# EAGLE library part XC3S5000-FG900 (library xess)
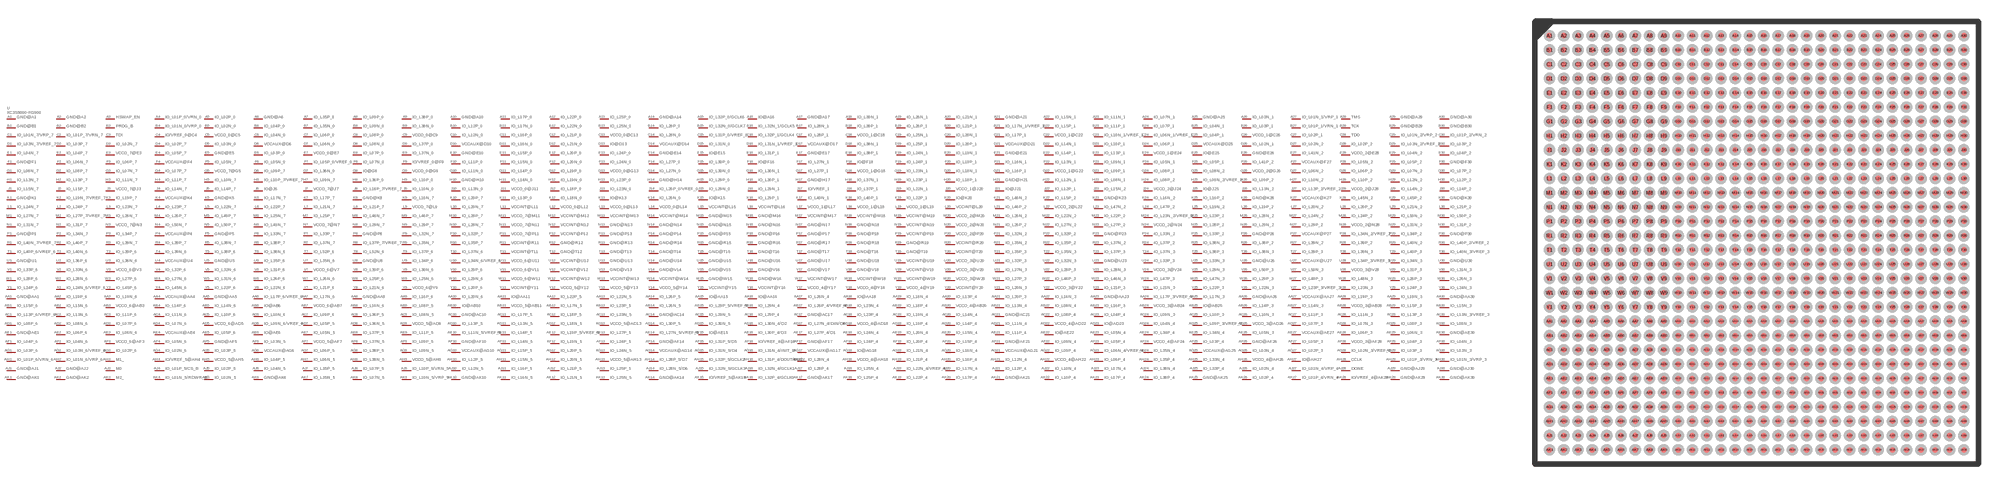
[diagram p101: symbol with the pads of XC3S5000-FG900; footprint XC3S5000-FG900]

Designator prefix U; gates PART_VALUE=PART_VALUE-XC3S5000-FG900 GND@A1=P-XC3S5000-FG900 GND@A2=P-XC3S5000-FG900 HSWAP_EN=P-XC3S5000-FG900 IO_L01P_0/VRN_0=P-XC3S5000-FG900 IO_L02P_0=P-XC3S5000-FG900 GND@A6=P-XC3S5000-FG900 IO_L35P_0=P-XC3S5000-FG900 IO_L09P_0=P-XC3S5000-FG900 IO_L38P_0=P-XC3S5000-FG900 GND@A10=P-XC3S5000-FG900 IO_L17P_0=P-XC3S5000-FG900 IO_L22P_0=P-XC3S5000-FG900 IO_L25P_0=P-XC3S5000-FG900 GND@A14=P-XC3S5000-FG900 IO_L32P_0/GCLK6=P-XC3S5000-FG900 IO@A16=P-XC3S5000-FG900 GND@A17=P-XC3S5000-FG900 IO_L39N_1=P-XC3S5000-FG900 IO_L26N_1=P-XC3S5000-FG900 IO_L21N_1=P-XC3S5000-FG900 GND@A21=P-XC3S5000-FG900 IO_L15N_1=P-XC3S5000-FG900 IO_L11N_1=P-XC3S5000-FG900 IO_L07N_1=P-XC3S5000-FG900 GND@A25=P-XC3S5000-FG900 IO_L03N_1=P-XC3S5000-FG900 IO_L01N_1/VRP_1=P-XC3S5000-FG900 TMS=P-XC3S5000-FG900 GND@A29=P-XC3S5000-FG900 GND@A30=P-XC3S5000-FG900 GND@B1=P-XC3S5000-FG900 GND@B2=P-XC3S5000-FG900 PROG_B=P-XC3S5000-FG900 IO_L01N_0/VRP_0=P-XC3S5000-FG900 IO_L02N_0=P-XC3S5000-FG900 IO_L04P_0=P-XC3S5000-FG900 IO_L35N_0=P-XC3S5000-FG900 IO_L09N_0=P-XC3S5000-FG900 IO_L38N_0=P-XC3S5000-FG900 IO_L12P_0=P-XC3S5000-FG900 IO_L17N_0=P-XC3S5000-FG900 IO_L22N_0=P-XC3S5000-FG900 IO_L25N_0=P-XC3S5000-FG900 IO_L28P_0=P-XC3S5000-FG900 IO_L32N_0/GCLK7=P-XC3S5000-FG900 IO_L32N_1/GCLK5=P-XC3S5000-FG900 IO_L28N_1=P-XC3S5000-FG900 IO_L39P_1=P-XC3S5000-FG900 IO_L26P_1=P-XC3S5000-FG900 IO_L21P_1=P-XC3S5000-FG900 IO_L17N_1/VREF_1=P-XC3S5000-FG900 IO_L15P_1=P-XC3S5000-FG900 IO_L11P_1=P-XC3S5000-FG900 IO_L07P_1=P-XC3S5000-FG900 IO_L04N_1=P-XC3S5000-FG900 IO_L03P_1=P-XC3S5000-FG900 IO_L01P_1/VRN_1=P-XC3S5000-FG900 TCK=P-XC3S5000-FG900 GND@B29=P-XC3S5000-FG900 GND@B30=P-XC3S5000-FG900 IO_L01N_7/VRP_7=P-XC3S5000-FG900 IO_L01P_7/VRN_7=P-XC3S5000-FG900 TDI=P-XC3S5000-FG900 IO/VREF_0@C4=P-XC3S5000-FG900 VCCO_0@C5=P-XC3S5000-FG900 IO_L04N_0=P-XC3S5000-FG900 IO_L06P_0=P-XC3S5000-FG900 IO_L08P_0=P-XC3S5000-FG900 VCCO_0@C9=P-XC3S5000-FG900 IO_L12N_0=P-XC3S5000-FG900 IO_L16P_0=P-XC3S5000-FG900 IO_L21P_0=P-XC3S5000-FG900 VCCO_0@C13=P-XC3S5000-FG900 IO_L28N_0=P-XC3S5000-FG900 IO_L31P_0/VREF_0=P-XC3S5000-FG900 IO_L32P_1/GCLK4=P-XC3S5000-FG900 IO_L28P_1=P-XC3S5000-FG900 VCCO_1@C18=P-XC3S5000-FG900 IO_L25N_1=P-XC3S5000-FG900 IO_L20N_1=P-XC3S5000-FG900 IO_L17P_1=P-XC3S5000-FG900 VCCO_1@C22=P-XC3S5000-FG900 IO_L10N_1/VREF_1=P-XC3S5000-FG900 IO_L06N_1/VREF_1=P-XC3S5000-FG900 IO_L04P_1=P-XC3S5000-FG900 VCCO_1@C26=P-XC3S5000-FG900 IO_L02P_1=P-XC3S5000-FG900 TDO=P-XC3S5000-FG900 IO_L01N_2/VRP_2=P-XC3S5000-FG900 IO_L01P_2/VRN_2=P-XC3S5000-FG900 IO_L03N_7/VREF_7=P-XC3S5000-FG900 IO_L03P_7=P-XC3S5000-FG900 IO_L02N_7=P-XC3S5000-FG900 IO_L02P_7=P-XC3S5000-FG900 IO_L03N_0=P-XC3S5000-FG900 VCCAUX@D6=P-XC3S5000-FG900 IO_L06N_0=P-XC3S5000-FG900 IO_L08N_0=P-XC3S5000-FG900 IO_L37P_0=P-XC3S5000-FG900 VCCAUX@D10=P-XC3S5000-FG900 IO_L16N_0=P-XC3S5000-FG900 IO_L21N_0=P-XC3S5000-FG900 IO@D13=P-XC3S5000-FG900 VCCAUX@D14=P-XC3S5000-FG900 IO_L31N_0=P-XC3S5000-FG900 IO_L31N_1/VREF_1=P-XC3S5000-FG900 VCCAUX@D17=P-XC3S5000-FG900 IO_L38N_1=P-XC3S5000-FG900 IO_L25P_1=P-XC3S5000-FG900 IO_L20P_1=P-XC3S5000-FG900 VCCAUX@D21=P-XC3S5000-FG900 IO_L14N_1=P-XC3S5000-FG900 IO_L10P_1=P-XC3S5000-FG900 IO_L06P_1=P-XC3S5000-FG900 VCCAUX@D25=P-XC3S5000-FG900 IO_L02N_1=P-XC3S5000-FG900 IO_L02N_2=P-XC3S5000-FG900 IO_L02P_2=P-XC3S5000-FG900 IO_L03N_2/VREF_2=P-XC3S5000-FG900 IO_L03P_2=P-XC3S5000-FG900 IO_L04N_7=P-XC3S5000-FG900 IO_L04P_7=P-XC3S5000-FG900 VCCO_7@E3=P-XC3S5000-FG900 IO_L05P_7=P-XC3S5000-FG900 GND@E5=P-XC3S5000-FG900 IO_L03P_0=P-XC3S5000-FG900 VCCO_0@E7=P-XC3S5000-FG900 IO_L07P_0=P-XC3S5000-FG900 IO_L37N_0=P-XC3S5000-FG900 GND@E10=P-XC3S5000-FG900 IO_L15P_0=P-XC3S5000-FG900 IO_L20P_0=P-XC3S5000-FG900 IO_L24P_0=P-XC3S5000-FG900 GND@E14=P-XC3S5000-FG900 IO@E15=P-XC3S5000-FG900 IO_L31P_1=P-XC3S5000-FG900 GND@E17=P-XC3S5000-FG900 IO_L38P_1=P-XC3S5000-FG900 IO_L24N_1=P-XC3S5000-FG900 IO_L19N_1=P-XC3S5000-FG900 GND@E21=P-XC3S5000-FG900 IO_L14P_1=P-XC3S5000-FG900 IO_L13P_1=P-XC3S5000-FG900 VCCO_1@E24=P-XC3S5000-FG900 IO@E25=P-XC3S5000-FG900 GND@E26=P-XC3S5000-FG900 IO_L41N_2=P-XC3S5000-FG900 VCCO_2@E28=P-XC3S5000-FG900 IO_L04N_2=P-XC3S5000-FG900 IO_L04P_2=P-XC3S5000-FG900 GND@F1=P-XC3S5000-FG900 IO_L06N_7=P-XC3S5000-FG900 IO_L06P_7=P-XC3S5000-FG900 VCCAUX@F4=P-XC3S5000-FG900 IO_L05N_7=P-XC3S5000-FG900 IO_L05N_0=P-XC3S5000-FG900 IO_L05P_0/VREF_0=P-XC3S5000-FG900 IO_L07N_0=P-XC3S5000-FG900 IO/VREF_0@F9=P-XC3S5000-FG900 IO_L11P_0=P-XC3S5000-FG900 IO_L15N_0=P-XC3S5000-FG900 IO_L20N_0=P-XC3S5000-FG900 IO_L24N_0=P-XC3S5000-FG900 IO_L27P_0=P-XC3S5000-FG900 IO_L30P_0=P-XC3S5000-FG900 IO@F16=P-XC3S5000-FG900 IO_L27N_1=P-XC3S5000-FG900 IO@F18=P-XC3S5000-FG900 IO_L24P_1=P-XC3S5000-FG900 IO_L19P_1=P-XC3S5000-FG900 IO_L16N_1=P-XC3S5000-FG900 IO_L13N_1=P-XC3S5000-FG900 IO_L09N_1=P-XC3S5000-FG900 IO_L05N_1=P-XC3S5000-FG900 IO_L05P_1=P-XC3S5000-FG900 IO_L41P_2=P-XC3S5000-FG900 VCCAUX@F27=P-XC3S5000-FG900 IO_L05N_2=P-XC3S5000-FG900 IO_L05P_2=P-XC3S5000-FG900 GND@F30=P-XC3S5000-FG900 IO_L08N_7=P-XC3S5000-FG900 IO_L08P_7=P-XC3S5000-FG900 IO_L07N_7=P-XC3S5000-FG900 IO_L07P_7=P-XC3S5000-FG900 VCCO_7@G5=P-XC3S5000-FG900 IO_L09P_7=P-XC3S5000-FG900 IO_L36N_0=P-XC3S5000-FG900 IO@G8=P-XC3S5000-FG900 VCCO_0@G9=P-XC3S5000-FG900 IO_L11N_0=P-XC3S5000-FG900 IO_L14P_0=P-XC3S5000-FG900 IO_L19P_0=P-XC3S5000-FG900 VCCO_0@G13=P-XC3S5000-FG900 IO_L27N_0=P-XC3S5000-FG900 IO_L30N_0=P-XC3S5000-FG900 IO_L30N_1=P-XC3S5000-FG900 IO_L27P_1=P-XC3S5000-FG900 VCCO_1@G18=P-XC3S5000-FG900 IO_L23N_1=P-XC3S5000-FG900 IO_L18N_1=P-XC3S5000-FG900 IO_L16P_1=P-XC3S5000-FG900 VCCO_1@G22=P-XC3S5000-FG900 IO_L09P_1=P-XC3S5000-FG900 IO_L08P_1=P-XC3S5000-FG900 IO_L08N_2=P-XC3S5000-FG900 VCCO_2@G26=P-XC3S5000-FG900 IO_L06N_2=P-XC3S5000-FG900 IO_L06P_2=P-XC3S5000-FG900 IO_L07N_2=P-XC3S5000-FG900 IO_L07P_2=P-XC3S5000-FG900 IO_L13N_7=P-XC3S5000-FG900 IO_L13P_7=P-XC3S5000-FG900 IO_L11N_7=P-XC3S5000-FG900 IO_L11P_7=P-XC3S5000-FG900 IO_L10N_7=P-XC3S5000-FG900 IO_L10P_7/VREF_7=P-XC3S5000-FG900 IO_L09N_7=P-XC3S5000-FG900 IO_L36P_0=P-XC3S5000-FG900 IO_L10P_0=P-XC3S5000-FG900 GND@H10=P-XC3S5000-FG900 IO_L14N_0=P-XC3S5000-FG900 IO_L19N_0=P-XC3S5000-FG900 IO_L23P_0=P-XC3S5000-FG900 GND@H14=P-XC3S5000-FG900 IO_L29P_0=P-XC3S5000-FG900 IO_L30P_1=P-XC3S5000-FG900 GND@H17=P-XC3S5000-FG900 IO_L37N_1=P-XC3S5000-FG900 IO_L23P_1=P-XC3S5000-FG900 IO_L18P_1=P-XC3S5000-FG900 GND@H21=P-XC3S5000-FG900 IO_L12N_1=P-XC3S5000-FG900 IO_L08N_1=P-XC3S5000-FG900 IO_L08P_2=P-XC3S5000-FG900 IO_L09N_2/VREF_2=P-XC3S5000-FG900 IO_L09P_2=P-XC3S5000-FG900 IO_L10N_2=P-XC3S5000-FG900 IO_L10P_2=P-XC3S5000-FG900 IO_L12N_2=P-XC3S5000-FG900 IO_L12P_2=P-XC3S5000-FG900 IO_L15N_7=P-XC3S5000-FG900 IO_L15P_7=P-XC3S5000-FG900 VCCO_7@J3=P-XC3S5000-FG900 IO_L14N_7=P-XC3S5000-FG900 IO_L14P_7=P-XC3S5000-FG900 IO@J6=P-XC3S5000-FG900 VCCO_7@J7=P-XC3S5000-FG900 IO_L16P_7/VREF_7=P-XC3S5000-FG900 IO_L10N_0=P-XC3S5000-FG900 IO_L13N_0=P-XC3S5000-FG900 VCCO_0@J11=P-XC3S5000-FG900 IO_L18P_0=P-XC3S5000-FG900 IO_L23N_0=P-XC3S5000-FG900 IO_L26P_0/VREF_0=P-XC3S5000-FG900 IO_L29N_0=P-XC3S5000-FG900 IO_L29N_1=P-XC3S5000-FG900 IO/VREF_1=P-XC3S5000-FG900 IO_L37P_1=P-XC3S5000-FG900 IO_L22N_1=P-XC3S5000-FG900 VCCO_1@J20=P-XC3S5000-FG900 IO@J21=P-XC3S5000-FG900 IO_L12P_1=P-XC3S5000-FG900 IO_L15N_2=P-XC3S5000-FG900 VCCO_2@J24=P-XC3S5000-FG900 IO@J25=P-XC3S5000-FG900 IO_L13N_2=P-XC3S5000-FG900 IO_L13P_2/VREF_2=P-XC3S5000-FG900 VCCO_2@J28=P-XC3S5000-FG900 IO_L14N_2=P-XC3S5000-FG900 IO_L14P_2=P-XC3S5000-FG900 GND@K1=P-XC3S5000-FG900 IO_L19N_7/VREF_7=P-XC3S5000-FG900 IO_L19P_7=P-XC3S5000-FG900 VCCAUX@K4=P-XC3S5000-FG900 GND@K5=P-XC3S5000-FG900 IO_L17N_7=P-XC3S5000-FG900 IO_L17P_7=P-XC3S5000-FG900 GND@K8=P-XC3S5000-FG900 IO_L16N_7=P-XC3S5000-FG900 IO_L20P_7=P-XC3S5000-FG900 IO_L13P_0=P-XC3S5000-FG900 IO_L18N_0=P-XC3S5000-FG900 IO@K13=P-XC3S5000-FG900 IO_L26N_0=P-XC3S5000-FG900 IO@K15=P-XC3S5000-FG900 IO_L29P_1=P-XC3S5000-FG900 IO_L40N_1=P-XC3S5000-FG900 IO_L40P_1=P-XC3S5000-FG900 IO_L22P_1=P-XC3S5000-FG900 IO@K20=P-XC3S5000-FG900 IO_L46N_2=P-XC3S5000-FG900 IO_L15P_2=P-XC3S5000-FG900 GND@K23=P-XC3S5000-FG900 IO_L16N_2=P-XC3S5000-FG900 IO_L16P_2=P-XC3S5000-FG900 GND@K26=P-XC3S5000-FG900 VCCAUX@K27=P-XC3S5000-FG900 IO_L45N_2=P-XC3S5000-FG900 IO_L45P_2=P-XC3S5000-FG900 GND@K30=P-XC3S5000-FG900 IO_L24N_7=P-XC3S5000-FG900 IO_L24P_7=P-XC3S5000-FG900 IO_L23N_7=P-XC3S5000-FG900 IO_L23P_7=P-XC3S5000-FG900 IO_L22N_7=P-XC3S5000-FG900 IO_L22P_7=P-XC3S5000-FG900 IO_L21N_7=P-XC3S5000-FG900 IO_L21P_7=P-XC3S5000-FG900 VCCO_7@L9=P-XC3S5000-FG900 IO_L20N_7=P-XC3S5000-FG900 VCCINT@L11=P-XC3S5000-FG900 VCCO_0@L12=P-XC3S5000-FG900 VCCO_0@L13=P-XC3S5000-FG900 VCCO_0@L14=P-XC3S5000-FG900 VCCINT@L15=P-XC3S5000-FG900 VCCINT@L16=P-XC3S5000-FG900 VCCO_1@L17=P-XC3S5000-FG900 VCCO_1@L18=P-XC3S5000-FG900 VCCO_1@L19=P-XC3S5000-FG900 VCCINT@L20=P-XC3S5000-FG900 IO_L46P_2=P-XC3S5000-FG900 VCCO_2@L22=P-XC3S5000-FG900 IO_L47N_2=P-XC3S5000-FG900 IO_L47P_2=P-XC3S5000-FG900 IO_L19N_2=P-XC3S5000-FG900 IO_L19P_2=P-XC3S5000-FG900 IO_L20N_2=P-XC3S5000-FG900 IO_L20P_2=P-XC3S5000-FG900 IO_L21N_2=P-XC3S5000-FG900 IO_L21P_2=P-XC3S5000-FG900 IO_L27N_7=P-XC3S5000-FG900 IO_L27P_7/VREF_7=P-XC3S5000-FG900 IO_L26N_7=P-XC3S5000-FG900 IO_L26P_7=P-XC3S5000-FG900 IO_L49P_7=P-XC3S5000-FG900 IO_L25N_7=P-XC3S5000-FG900 IO_L25P_7=P-XC3S5000-FG900 IO_L46N_7=P-XC3S5000-FG900 IO_L46P_7=P-XC3S5000-FG900 IO_L28P_7=P-XC3S5000-FG900 VCCO_7@M11=P-XC3S5000-FG900 VCCINT@M12=P-XC3S5000-FG900 VCCINT@M13=P-XC3S5000-FG900 VCCINT@M14=P-XC3S5000-FG900 GND@M15=P-XC3S5000-FG900 GND@M16=P-XC3S5000-FG900 VCCINT@M17=P-XC3S5000-FG900 VCCINT@M18=P-XC3S5000-FG900 VCCINT@M19=P-XC3S5000-FG900 VCCO_2@M20=P-XC3S5000-FG900 IO_L26N_2=P-XC3S5000-FG900 IO_L22N_2=P-XC3S5000-FG900 IO_L22P_2=P-XC3S5000-FG900 IO_L23N_2/VREF_2=P-XC3S5000-FG900 IO_L23P_2=P-XC3S5000-FG900 IO_L28N_2=P-XC3S5000-FG900 IO_L24N_2=P-XC3S5000-FG900 IO_L24P_2=P-XC3S5000-FG900 IO_L50N_2=P-XC3S5000-FG900 IO_L50P_2=P-XC3S5000-FG900 IO_L31N_7=P-XC3S5000-FG900 IO_L31P_7=P-XC3S5000-FG900 VCCO_7@N3=P-XC3S5000-FG900 IO_L50N_7=P-XC3S5000-FG900 IO_L50P_7=P-XC3S5000-FG900 IO_L49N_7=P-XC3S5000-FG900 VCCO_7@N7=P-XC3S5000-FG900 IO_L29N_7=P-XC3S5000-FG900 IO_L29P_7=P-XC3S5000-FG900 IO_L28N_7=P-XC3S5000-FG900 VCCO_7@N11=P-XC3S5000-FG900 VCCINT@N12=P-XC3S5000-FG900 GND@N13=P-XC3S5000-FG900 GND@N14=P-XC3S5000-FG900 GND@N15=P-XC3S5000-FG900 GND@N16=P-XC3S5000-FG900 GND@N17=P-XC3S5000-FG900 GND@N18=P-XC3S5000-FG900 VCCINT@N19=P-XC3S5000-FG900 VCCO_2@N20=P-XC3S5000-FG900 IO_L26P_2=P-XC3S5000-FG900 IO_L27N_2=P-XC3S5000-FG900 IO_L27P_2=P-XC3S5000-FG900 VCCO_2@N24=P-XC3S5000-FG900 IO_L28P_2=P-XC3S5000-FG900 IO_L29N_2=P-XC3S5000-FG900 IO_L29P_2=P-XC3S5000-FG900 VCCO_2@N28=P-XC3S5000-FG900 IO_L31N_2=P-XC3S5000-FG900 IO_L31P_2=P-XC3S5000-FG900 GND@P1=P-XC3S5000-FG900 IO_L34N_7=P-XC3S5000-FG900 IO_L34P_7=P-XC3S5000-FG900 VCCAUX@P4=P-XC3S5000-FG900 GND@P5=P-XC3S5000-FG900 IO_L33N_7=P-XC3S5000-FG900 IO_L33P_7=P-XC3S5000-FG900 GND@P8=P-XC3S5000-FG900 IO_L32N_7=P-XC3S5000-FG900 IO_L32P_7=P-XC3S5000-FG900 VCCO_7@P11=P-XC3S5000-FG900 VCCINT@P12=P-XC3S5000-FG900 GND@P13=P-XC3S5000-FG900 GND@P14=P-XC3S5000-FG900 GND@P15=P-XC3S5000-FG900 GND@P16=P-XC3S5000-FG900 GND@P17=P-XC3S5000-FG900 GND@P18=P-XC3S5000-FG900 VCCINT@P19=P-XC3S5000-FG900 VCCO_2@P20=P-XC3S5000-FG900 IO_L32N_2=P-XC3S5000-FG900 IO_L32P_2=P-XC3S5000-FG900 GND@P23=P-XC3S5000-FG900 IO_L33N_2=P-XC3S5000-FG900 IO_L33P_2=P-XC3S5000-FG900 GND@P26=P-XC3S5000-FG900 VCCAUX@P27=P-XC3S5000-FG900 IO_L34N_2/VREF_2=P-XC3S5000-FG900 IO_L34P_2=P-XC3S5000-FG900 GND@P30=P-XC3S5000-FG900 IO_L40N_7/VREF_7=P-XC3S5000-FG900 IO_L40P_7=P-XC3S5000-FG900 IO_L39N_7=P-XC3S5000-FG900 IO_L39P_7=P-XC3S5000-FG900 IO_L38N_7=P-XC3S5000-FG900 IO_L38P_7=P-XC3S5000-FG900 IO_L37N_7=P-XC3S5000-FG900 IO_L37P_7/VREF_7=P-XC3S5000-FG900 IO_L35N_7=P-XC3S5000-FG900 IO_L35P_7=P-XC3S5000-FG900 VCCINT@R11=P-XC3S5000-FG900 GND@R12=P-XC3S5000-FG900 GND@R13=P-XC3S5000-FG900 GND@R14=P-XC3S5000-FG900 GND@R15=P-XC3S5000-FG900 GND@R16=P-XC3S5000-FG900 GND@R17=P-XC3S5000-FG900 GND@R18=P-XC3S5000-FG900 GND@R19=P-XC3S5000-FG900 VCCINT@R20=P-XC3S5000-FG900 IO_L35N_2=P-XC3S5000-FG900 IO_L35P_2=P-XC3S5000-FG900 IO_L37N_2=P-XC3S5000-FG900 IO_L37P_2=P-XC3S5000-FG900 IO_L38N_2=P-XC3S5000-FG900 IO_L38P_2=P-XC3S5000-FG900 IO_L39N_2=P-XC3S5000-FG900 IO_L39P_2=P-XC3S5000-FG900 IO_L40N_2=P-XC3S5000-FG900 IO_L40P_2/VREF_2=P-XC3S5000-FG900 IO_L40P_6/VREF_6=P-XC3S5000-FG900 IO_L40N_6=P-XC3S5000-FG900 IO_L39P_6=P-XC3S5000-FG900 IO_L39N_6=P-XC3S5000-FG900 IO_L38P_6=P-XC3S5000-FG900 IO_L38N_6=P-XC3S5000-FG900 IO_L52P_6=P-XC3S5000-FG900 IO_L52N_6=P-XC3S5000-FG900 IO_L37P_6=P-XC3S5000-FG900 IO_L37N_6=P-XC3S5000-FG900 VCCINT@T11=P-XC3S5000-FG900 GND@T12=P-XC3S5000-FG900 GND@T13=P-XC3S5000-FG900 GND@T14=P-XC3S5000-FG900 GND@T15=P-XC3S5000-FG900 GND@T16=P-XC3S5000-FG900 GND@T17=P-XC3S5000-FG900 GND@T18=P-XC3S5000-FG900 GND@T19=P-XC3S5000-FG900 VCCINT@T20=P-XC3S5000-FG900 IO_L35P_3=P-XC3S5000-FG900 IO_L35N_3=P-XC3S5000-FG900 IO_L37P_3=P-XC3S5000-FG900 IO_L37N_3=P-XC3S5000-FG900 IO_L38P_3=P-XC3S5000-FG900 IO_L38N_3=P-XC3S5000-FG900 IO_L39P_3=P-XC3S5000-FG900 IO_L39N_3=P-XC3S5000-FG900 IO_L40P_3=P-XC3S5000-FG900 IO_L40N_3/VREF_3=P-XC3S5000-FG900 GND@U1=P-XC3S5000-FG900 IO_L36P_6=P-XC3S5000-FG900 IO_L36N_6=P-XC3S5000-FG900 VCCAUX@U4=P-XC3S5000-FG900 GND@U5=P-XC3S5000-FG900 IO_L35P_6=P-XC3S5000-FG900 IO_L35N_6=P-XC3S5000-FG900 GND@U8=P-XC3S5000-FG900 IO_L34P_6=P-XC3S5000-FG900 IO_L34N_6/VREF_6=P-XC3S5000-FG900 VCCO_6@U11=P-XC3S5000-FG900 VCCINT@U12=P-XC3S5000-FG900 GND@U13=P-XC3S5000-FG900 GND@U14=P-XC3S5000-FG900 GND@U15=P-XC3S5000-FG900 GND@U16=P-XC3S5000-FG900 GND@U17=P-XC3S5000-FG900 GND@U18=P-XC3S5000-FG900 VCCINT@U19=P-XC3S5000-FG900 VCCO_3@U20=P-XC3S5000-FG900 IO_L32P_3=P-XC3S5000-FG900 IO_L32N_3=P-XC3S5000-FG900 GND@U23=P-XC3S5000-FG900 IO_L33P_3=P-XC3S5000-FG900 IO_L33N_3=P-XC3S5000-FG900 GND@U26=P-XC3S5000-FG900 VCCAUX@U27=P-XC3S5000-FG900 IO_L34P_3/VREF_3=P-XC3S5000-FG900 IO_L34N_3=P-XC3S5000-FG900 GND@U30=P-XC3S5000-FG900 IO_L33P_6=P-XC3S5000-FG900 IO_L33N_6=P-XC3S5000-FG900 VCCO_6@V3=P-XC3S5000-FG900 IO_L32P_6=P-XC3S5000-FG900 IO_L32N_6=P-XC3S5000-FG900 IO_L31P_6=P-XC3S5000-FG900 VCCO_6@V7=P-XC3S5000-FG900 IO_L30P_6=P-XC3S5000-FG900 IO_L30N_6=P-XC3S5000-FG900 IO_L29P_6=P-XC3S5000-FG900 VCCO_6@V11=P-XC3S5000-FG900 VCCINT@V12=P-XC3S5000-FG900 GND@V13=P-XC3S5000-FG900 GND@V14=P-XC3S5000-FG900 GND@V15=P-XC3S5000-FG900 GND@V16=P-XC3S5000-FG900 GND@V17=P-XC3S5000-FG900 GND@V18=P-XC3S5000-FG900 VCCINT@V19=P-XC3S5000-FG900 VCCO_3@V20=P-XC3S5000-FG900 IO_L27N_3=P-XC3S5000-FG900 IO_L28P_3=P-XC3S5000-FG900 IO_L28N_3=P-XC3S5000-FG900 VCCO_3@V24=P-XC3S5000-FG900 IO_L29N_3=P-XC3S5000-FG900 IO_L50P_3=P-XC3S5000-FG900 IO_L50N_3=P-XC3S5000-FG900 VCCO_3@V28=P-XC3S5000-FG900 IO_L31P_3=P-XC3S5000-FG900 IO_L31N_3=P-XC3S5000-FG900 IO_L28P_6=P-XC3S5000-FG900 IO_L28N_6=P-XC3S5000-FG900 IO_L27P_6=P-XC3S5000-FG900 IO_L27N_6=P-XC3S5000-FG900 IO_L31N_6=P-XC3S5000-FG900 IO_L26P_6=P-XC3S5000-FG900 IO_L26N_6=P-XC3S5000-FG900 IO_L25P_6=P-XC3S5000-FG900 IO_L25N_6=P-XC3S5000-FG900 IO_L29N_6=P-XC3S5000-FG900 VCCO_6@W11=P-XC3S5000-FG900 VCCINT@W12=P-XC3S5000-FG900 VCCINT@W13=P-XC3S5000-FG900 VCCINT@W14=P-XC3S5000-FG900 GND@W15=P-XC3S5000-FG900 GND@W16=P-XC3S5000-FG900 VCCINT@W17=P-XC3S5000-FG900 VCCINT@W18=P-XC3S5000-FG900 VCCINT@W19=P-XC3S5000-FG900 VCCO_3@W20=P-XC3S5000-FG900 IO_L27P_3=P-XC3S5000-FG900 IO_L46P_3=P-XC3S5000-FG900 IO_L46N_3=P-XC3S5000-FG900 IO_L47P_3=P-XC3S5000-FG900 IO_L47N_3=P-XC3S5000-FG900 IO_L29P_3=P-XC3S5000-FG900 IO_L48P_3=P-XC3S5000-FG900 IO_L48N_3=P-XC3S5000-FG900 IO_L26P_3=P-XC3S5000-FG900 IO_L26N_3=P-XC3S5000-FG900 IO_L24P_6=P-XC3S5000-FG900 IO_L24N_6/VREF_6=P-XC3S5000-FG900 IO_L45P_6=P-XC3S5000-FG900 IO_L45N_6=P-XC3S5000-FG900 IO_L22P_6=P-XC3S5000-FG900 IO_L22N_6=P-XC3S5000-FG900 IO_L21P_6=P-XC3S5000-FG900 IO_L21N_6=P-XC3S5000-FG900 VCCO_6@Y9=P-XC3S5000-FG900 IO_L20P_6=P-XC3S5000-FG900 VCCINT@Y11=P-XC3S5000-FG900 VCCO_5@Y12=P-XC3S5000-FG900 VCCO_5@Y13=P-XC3S5000-FG900 VCCO_5@Y14=P-XC3S5000-FG900 VCCINT@Y15=P-XC3S5000-FG900 VCCINT@Y16=P-XC3S5000-FG900 VCCO_4@Y17=P-XC3S5000-FG900 VCCO_4@Y18=P-XC3S5000-FG900 VCCO_4@Y19=P-XC3S5000-FG900 VCCINT@Y20=P-XC3S5000-FG900 IO_L20N_3=P-XC3S5000-FG900 VCCO_3@Y22=P-XC3S5000-FG900 IO_L21P_3=P-XC3S5000-FG900 IO_L21N_3=P-XC3S5000-FG900 IO_L22P_3=P-XC3S5000-FG900 IO_L22N_3=P-XC3S5000-FG900 IO_L23P_3/VREF_3=P-XC3S5000-FG900 IO_L23N_3=P-XC3S5000-FG900 IO_L24P_3=P-XC3S5000-FG900 IO_L24N_3=P-XC3S5000-FG900 GND@AA1=P-XC3S5000-FG900 IO_L19P_6=P-XC3S5000-FG900 IO_L19N_6=P-XC3S5000-FG900 VCCAUX@AA4=P-XC3S5000-FG900 GND@AA5=P-XC3S5000-FG900 IO_L17P_6/VREF_6=P-XC3S5000-FG900 IO_L17N_6=P-XC3S5000-FG900 GND@AA8=P-XC3S5000-FG900 IO_L16P_6=P-XC3S5000-FG900 IO_L20N_6=P-XC3S5000-FG900 IO@AA11=P-XC3S5000-FG900 IO_L22P_5=P-XC3S5000-FG900 IO_L22N_5=P-XC3S5000-FG900 IO_L26P_5=P-XC3S5000-FG900 IO@AA15=P-XC3S5000-FG900 IO@AA16=P-XC3S5000-FG900 IO_L26N_4=P-XC3S5000-FG900 IO@AA18=P-XC3S5000-FG900 IO_L18N_4=P-XC3S5000-FG900 IO_L13P_4=P-XC3S5000-FG900 IO_L20P_3=P-XC3S5000-FG900 IO_L16N_3=P-XC3S5000-FG900 GND@AA23=P-XC3S5000-FG900 IO_L17P_3/VREF_3=P-XC3S5000-FG900 IO_L17N_3=P-XC3S5000-FG900 GND@AA26=P-XC3S5000-FG900 VCCAUX@AA27=P-XC3S5000-FG900 IO_L19P_3=P-XC3S5000-FG900 IO_L19N_3=P-XC3S5000-FG900 GND@AA30=P-XC3S5000-FG900 IO_L15P_6=P-XC3S5000-FG900 IO_L15N_6=P-XC3S5000-FG900 VCCO_6@AB3=P-XC3S5000-FG900 IO_L14P_6=P-XC3S5000-FG900 IO_L14N_6=P-XC3S5000-FG900 IO@AB6=P-XC3S5000-FG900 VCCO_6@AB7=P-XC3S5000-FG900 IO_L16N_6=P-XC3S5000-FG900 IO_L08P_5=P-XC3S5000-FG900 IO@AB10=P-XC3S5000-FG900 VCCO_5@AB11=P-XC3S5000-FG900 IO_L17N_5=P-XC3S5000-FG900 IO_L23P_5=P-XC3S5000-FG900 IO_L26N_5=P-XC3S5000-FG900 IO_L29P_5/VREF_5=P-XC3S5000-FG900 IO_L29N_4=P-XC3S5000-FG900 IO_L26P_4/VREF_4=P-XC3S5000-FG900 IO_L23N_4=P-XC3S5000-FG900 IO_L18P_4=P-XC3S5000-FG900 VCCO_4@AB20=P-XC3S5000-FG900 IO_L13N_4=P-XC3S5000-FG900 IO_L08N_4=P-XC3S5000-FG900 IO_L16P_3=P-XC3S5000-FG900 VCCO_3@AB24=P-XC3S5000-FG900 IO@AB25=P-XC3S5000-FG900 IO_L14P_3=P-XC3S5000-FG900 IO_L14N_3=P-XC3S5000-FG900 VCCO_3@AB28=P-XC3S5000-FG900 IO_L15P_3=P-XC3S5000-FG900 IO_L15N_3=P-XC3S5000-FG900 IO_L13P_6/VREF_6=P-XC3S5000-FG900 IO_L13N_6=P-XC3S5000-FG900 IO_L11P_6=P-XC3S5000-FG900 IO_L11N_6=P-XC3S5000-FG900 IO_L10P_6=P-XC3S5000-FG900 IO_L10N_6=P-XC3S5000-FG900 IO_L09P_6=P-XC3S5000-FG900 IO_L36P_5=P-XC3S5000-FG900 IO_L08N_5=P-XC3S5000-FG900 GND@AC10=P-XC3S5000-FG900 IO_L17P_5=P-XC3S5000-FG900 IO_L18P_5=P-XC3S5000-FG900 IO_L23N_5=P-XC3S5000-FG900 GND@AC14=P-XC3S5000-FG900 IO_L29N_5=P-XC3S5000-FG900 IO_L29P_4=P-XC3S5000-FG900 GND@AC17=P-XC3S5000-FG900 IO_L23P_4=P-XC3S5000-FG900 IO_L19N_4=P-XC3S5000-FG900 IO_L14N_4=P-XC3S5000-FG900 GND@AC21=P-XC3S5000-FG900 IO_L08P_4=P-XC3S5000-FG900 IO_L04P_4=P-XC3S5000-FG900 IO_L09N_3=P-XC3S5000-FG900 IO_L10P_3=P-XC3S5000-FG900 IO_L10N_3=P-XC3S5000-FG900 IO_L11P_3=P-XC3S5000-FG900 IO_L11N_3=P-XC3S5000-FG900 IO_L13P_3=P-XC3S5000-FG900 IO_L13N_3/VREF_3=P-XC3S5000-FG900 IO_L08P_6=P-XC3S5000-FG900 IO_L08N_6=P-XC3S5000-FG900 IO_L07P_6=P-XC3S5000-FG900 IO_L07N_6=P-XC3S5000-FG900 VCCO_6@AD5=P-XC3S5000-FG900 IO_L09N_6/VREF_6=P-XC3S5000-FG900 IO_L05P_5=P-XC3S5000-FG900 IO_L36N_5=P-XC3S5000-FG900 VCCO_5@AD9=P-XC3S5000-FG900 IO_L13P_5=P-XC3S5000-FG900 IO_L13N_5=P-XC3S5000-FG900 IO_L18N_5=P-XC3S5000-FG900 VCCO_5@AD13=P-XC3S5000-FG900 IO_L30P_5=P-XC3S5000-FG900 IO_L30N_5=P-XC3S5000-FG900 IO_L30N_4/D2=P-XC3S5000-FG900 IO_L27N_4/DIN/D0=P-XC3S5000-FG900 VCCO_4@AD18=P-XC3S5000-FG900 IO_L19P_4=P-XC3S5000-FG900 IO_L14P_4=P-XC3S5000-FG900 IO_L11N_4=P-XC3S5000-FG900 VCCO_4@AD22=P-XC3S5000-FG900 IO@AD23=P-XC3S5000-FG900 IO_L04N_4=P-XC3S5000-FG900 IO_L09P_3/VREF_3=P-XC3S5000-FG900 VCCO_3@AD26=P-XC3S5000-FG900 IO_L07P_3=P-XC3S5000-FG900 IO_L07N_3=P-XC3S5000-FG900 IO_L08P_3=P-XC3S5000-FG900 IO_L08N_3=P-XC3S5000-FG900 GND@AE1=P-XC3S5000-FG900 IO_L06P_6=P-XC3S5000-FG900 IO_L06N_6=P-XC3S5000-FG900 VCCAUX@AE4=P-XC3S5000-FG900 IO_L05P_6=P-XC3S5000-FG900 IO@AE6=P-XC3S5000-FG900 IO_L05N_5=P-XC3S5000-FG900 IO_L37P_5=P-XC3S5000-FG900 IO_L11P_5=P-XC3S5000-FG900 IO_L11N_5/VREF_5=P-XC3S5000-FG900 IO_L14P_5=P-XC3S5000-FG900 IO_L19P_5/VREF_5=P-XC3S5000-FG900 IO_L27P_5=P-XC3S5000-FG900 IO_L27N_5/VREF_5=P-XC3S5000-FG900 IO@AE15=P-XC3S5000-FG900 IO_L30P_4/D3=P-XC3S5000-FG900 IO_L27P_4/D1=P-XC3S5000-FG900 IO_L24N_4=P-XC3S5000-FG900 IO_L20N_4=P-XC3S5000-FG900 IO_L15N_4=P-XC3S5000-FG900 IO_L11P_4=P-XC3S5000-FG900 IO@AE22=P-XC3S5000-FG900 IO_L05N_4=P-XC3S5000-FG900 IO_L34P_4=P-XC3S5000-FG900 IO_L34N_4=P-XC3S5000-FG900 IO_L05N_3=P-XC3S5000-FG900 VCCAUX@AE27=P-XC3S5000-FG900 IO_L06P_3=P-XC3S5000-FG900 IO_L06N_3=P-XC3S5000-FG900 GND@AE30=P-XC3S5000-FG900 IO_L04P_6=P-XC3S5000-FG900 IO_L04N_6=P-XC3S5000-FG900 VCCO_6@AF3=P-XC3S5000-FG900 IO_L05N_6=P-XC3S5000-FG900 GND@AF5=P-XC3S5000-FG900 IO_L03N_5=P-XC3S5000-FG900 VCCO_5@AF7=P-XC3S5000-FG900 IO_L37N_5=P-XC3S5000-FG900 IO_L09P_5=P-XC3S5000-FG900 GND@AF10=P-XC3S5000-FG900 IO_L14N_5=P-XC3S5000-FG900 IO_L19N_5=P-XC3S5000-FG900 IO_L24P_5=P-XC3S5000-FG900 GND@AF14=P-XC3S5000-FG900 IO_L31P_5/D5=P-XC3S5000-FG900 IO/VREF_4@AF16=P-XC3S5000-FG900 GND@AF17=P-XC3S5000-FG900 IO_L24P_4=P-XC3S5000-FG900 IO_L20P_4=P-XC3S5000-FG900 IO_L15P_4=P-XC3S5000-FG900 GND@AF21=P-XC3S5000-FG900 IO_L09N_4=P-XC3S5000-FG900 IO_L05P_4=P-XC3S5000-FG900 VCCO_4@AF24=P-XC3S5000-FG900 IO_L03P_4=P-XC3S5000-FG900 GND@AF26=P-XC3S5000-FG900 IO_L05P_3=P-XC3S5000-FG900 VCCO_3@AF28=P-XC3S5000-FG900 IO_L04P_3=P-XC3S5000-FG900 IO_L04N_3=P-XC3S5000-FG900 IO_L03P_6=P-XC3S5000-FG900 IO_L03N_6/VREF_6=P-XC3S5000-FG900 IO_L02P_6=P-XC3S5000-FG900 IO_L02N_6=P-XC3S5000-FG900 IO_L03P_5=P-XC3S5000-FG900 VCCAUX@AG6=P-XC3S5000-FG900 IO_L06P_5=P-XC3S5000-FG900 IO_L38P_5=P-XC3S5000-FG900 IO_L09N_5=P-XC3S5000-FG900 VCCAUX@AG10=P-XC3S5000-FG900 IO_L15P_5=P-XC3S5000-FG900 IO_L20P_5=P-XC3S5000-FG900 IO_L24N_5=P-XC3S5000-FG900 VCCAUX@AG14=P-XC3S5000-FG900 IO_L31N_5/D4=P-XC3S5000-FG900 IO_L31N_4/INIT_B=P-XC3S5000-FG900 VCCAUX@AG17=P-XC3S5000-FG900 IO@AG18=P-XC3S5000-FG900 IO_L21N_4=P-XC3S5000-FG900 IO_L16N_4=P-XC3S5000-FG900 VCCAUX@AG21=P-XC3S5000-FG900 IO_L09P_4=P-XC3S5000-FG900 IO_L06N_4/VREF_4=P-XC3S5000-FG900 IO_L35N_4=P-XC3S5000-FG900 VCCAUX@AG25=P-XC3S5000-FG900 IO_L03N_4=P-XC3S5000-FG900 IO_L02P_3=P-XC3S5000-FG900 IO_L02N_3/VREF_3=P-XC3S5000-FG900 IO_L03P_3=P-XC3S5000-FG900 IO_L03N_3=P-XC3S5000-FG900 IO_L01P_6/VRN_6=P-XC3S5000-FG900 IO_L01N_6/VRP_6=P-XC3S5000-FG900 M1_=P-XC3S5000-FG900 IO/VREF_5@AH4=P-XC3S5000-FG900 VCCO_5@AH5=P-XC3S5000-FG900 IO_L04P_5=P-XC3S5000-FG900 IO_L06N_5=P-XC3S5000-FG900 IO_L38N_5=P-XC3S5000-FG900 VCCO_5@AH9=P-XC3S5000-FG900 IO_L12P_5=P-XC3S5000-FG900 IO_L15N_5=P-XC3S5000-FG900 IO_L20N_5=P-XC3S5000-FG900 VCCO_5@AH13=P-XC3S5000-FG900 IO_L28P_5/D7=P-XC3S5000-FG900 IO_L32P_5/GCLK2=P-XC3S5000-FG900 IO_L31P_4/DOUT/BUSY=P-XC3S5000-FG900 IO_L28N_4=P-XC3S5000-FG900 VCCO_4@AH18=P-XC3S5000-FG900 IO_L21P_4=P-XC3S5000-FG900 IO_L16P_4=P-XC3S5000-FG900 IO_L12N_4=P-XC3S5000-FG900 VCCO_4@AH22=P-XC3S5000-FG900 IO_L06P_4=P-XC3S5000-FG900 IO_L35P_4=P-XC3S5000-FG900 IO_L33N_4=P-XC3S5000-FG900 VCCO_4@AH26=P-XC3S5000-FG900 IO@AH27=P-XC3S5000-FG900 CCLK=P-XC3S5000-FG900 IO_L01P_3/VRN_3=P-XC3S5000-FG900 IO_L01N_3/VRP_3=P-XC3S5000-FG900 GND@AJ1=P-XC3S5000-FG900 GND@AJ2=P-XC3S5000-FG900 M0=P-XC3S5000-FG900 IO_L01P_5/CS_B=P-XC3S5000-FG900 IO_L02P_5=P-XC3S5000-FG900 IO_L04N_5=P-XC3S5000-FG900 IO_L35P_5=P-XC3S5000-FG900 IO_L07P_5=P-XC3S5000-FG900 IO_L10P_5/VRN_5=P-XC3S5000-FG900 IO_L12N_5=P-XC3S5000-FG900 IO_L16P_5=P-XC3S5000-FG900 IO_L21P_5=P-XC3S5000-FG900 IO_L25P_5=P-XC3S5000-FG900 IO_L28N_5/D6=P-XC3S5000-FG900 IO_L32N_5/GCLK3=P-XC3S5000-FG900 IO_L32N_4/GCLK1=P-XC3S5000-FG900 IO_L28P_4=P-XC3S5000-FG900 IO_L25N_4=P-XC3S5000-FG900 IO_L22N_4/VREF_4=P-XC3S5000-FG900 IO_L17N_4=P-XC3S5000-FG900 IO_L12P_4=P-XC3S5000-FG900 IO_L10N_4=P-XC3S5000-FG900 IO_L07N_4=P-XC3S5000-FG900 IO_L38N_4=P-XC3S5000-FG900 IO_L33P_4=P-XC3S5000-FG900 IO_L02N_4=P-XC3S5000-FG900 IO_L01N_4/VRP_4=P-XC3S5000-FG900 DONE=P-XC3S5000-FG900 GND@AJ29=P-XC3S5000-FG900 GND@AJ30=P-XC3S5000-FG900 GND@AK1=P-XC3S5000-FG900 GND@AK2=P-XC3S5000-FG900 M2_=P-XC3S5000-FG900 IO_L01N_5/RDWR_B=P-XC3S5000-FG900 IO_L02N_5=P-XC3S5000-FG900 GND@AK6=P-XC3S5000-FG900 IO_L35N_5=P-XC3S5000-FG900 IO_L07N_5=P-XC3S5000-FG900 IO_L10N_5/VRP_5=P-XC3S5000-FG900 GND@AK10=P-XC3S5000-FG900 IO_L16N_5=P-XC3S5000-FG900 IO_L21N_5=P-XC3S5000-FG900 IO_L25N_5=P-XC3S5000-FG900 GND@AK14=P-XC3S5000-FG900 IO/VREF_5@AK15=P-XC3S5000-FG900 IO_L32P_4/GCLK0=P-XC3S5000-FG900 GND@AK17=P-XC3S5000-FG900 IO_L25P_4=P-XC3S5000-FG900 IO_L22P_4=P-XC3S5000-FG900 IO_L17P_4=P-XC3S5000-FG900 GND@AK21=P-XC3S5000-FG900 IO_L10P_4=P-XC3S5000-FG900 IO_L07P_4=P-XC3S5000-FG900 IO_L38P_4=P-XC3S5000-FG900 GND@AK25=P-XC3S5000-FG900 IO_L02P_4=P-XC3S5000-FG900 IO_L01P_4/VRN_4=P-XC3S5000-FG900 IO/VREF_4@AK28=P-XC3S5000-FG900 GND@AK29=P-XC3S5000-FG900 GND@AK30=P-XC3S5000-FG900

## XC3S5000-FG900  [XC3S5000-FG900]
A1  GND@A1:P$1
A2  GND@A2:P$1
A3  HSWAP_EN:P$1
A4  IO_L01P_0/VRN_0:P$1
A5  IO_L02P_0:P$1
A6  GND@A6:P$1
A7  IO_L35P_0:P$1
A8  IO_L09P_0:P$1
A9  IO_L38P_0:P$1
A10  GND@A10:P$1
A11  IO_L17P_0:P$1
A12  IO_L22P_0:P$1
A13  IO_L25P_0:P$1
A14  GND@A14:P$1
A15  IO_L32P_0/GCLK6:P$1
A16  IO@A16:P$1
A17  GND@A17:P$1
A18  IO_L39N_1:P$1
A19  IO_L26N_1:P$1
A20  IO_L21N_1:P$1
A21  GND@A21:P$1
A22  IO_L15N_1:P$1
A23  IO_L11N_1:P$1
A24  IO_L07N_1:P$1
A25  GND@A25:P$1
A26  IO_L03N_1:P$1
A27  IO_L01N_1/VRP_1:P$1
A28  TMS:P$1
A29  GND@A29:P$1
A30  GND@A30:P$1
AA1  GND@AA1:P$1
AA2  IO_L19P_6:P$1
AA3  IO_L19N_6:P$1
AA4  VCCAUX@AA4:P$1
AA5  GND@AA5:P$1
AA6  IO_L17P_6/VREF_6:P$1
AA7  IO_L17N_6:P$1
AA8  GND@AA8:P$1
AA9  IO_L16P_6:P$1
AA10  IO_L20N_6:P$1
AA11  IO@AA11:P$1
AA12  IO_L22P_5:P$1
AA13  IO_L22N_5:P$1
AA14  IO_L26P_5:P$1
AA15  IO@AA15:P$1
AA16  IO@AA16:P$1
AA17  IO_L26N_4:P$1
AA18  IO@AA18:P$1
AA19  IO_L18N_4:P$1
AA20  IO_L13P_4:P$1
AA21  IO_L20P_3:P$1
AA22  IO_L16N_3:P$1
AA23  GND@AA23:P$1
AA24  IO_L17P_3/VREF_3:P$1
AA25  IO_L17N_3:P$1
AA26  GND@AA26:P$1
AA27  VCCAUX@AA27:P$1
AA28  IO_L19P_3:P$1
AA29  IO_L19N_3:P$1
AA30  GND@AA30:P$1
AB1  IO_L15P_6:P$1
AB2  IO_L15N_6:P$1
AB3  VCCO_6@AB3:P$1
AB4  IO_L14P_6:P$1
AB5  IO_L14N_6:P$1
AB6  IO@AB6:P$1
AB7  VCCO_6@AB7:P$1
AB8  IO_L16N_6:P$1
AB9  IO_L08P_5:P$1
AB10  IO@AB10:P$1
AB11  VCCO_5@AB11:P$1
AB12  IO_L17N_5:P$1
AB13  IO_L23P_5:P$1
AB14  IO_L26N_5:P$1
AB15  IO_L29P_5/VREF_5:P$1
AB16  IO_L29N_4:P$1
AB17  IO_L26P_4/VREF_4:P$1
AB18  IO_L23N_4:P$1
AB19  IO_L18P_4:P$1
AB20  VCCO_4@AB20:P$1
AB21  IO_L13N_4:P$1
AB22  IO_L08N_4:P$1
AB23  IO_L16P_3:P$1
AB24  VCCO_3@AB24:P$1
AB25  IO@AB25:P$1
AB26  IO_L14P_3:P$1
AB27  IO_L14N_3:P$1
AB28  VCCO_3@AB28:P$1
AB29  IO_L15P_3:P$1
AB30  IO_L15N_3:P$1
AC1  IO_L13P_6/VREF_6:P$1
AC2  IO_L13N_6:P$1
AC3  IO_L11P_6:P$1
AC4  IO_L11N_6:P$1
AC5  IO_L10P_6:P$1
AC6  IO_L10N_6:P$1
AC7  IO_L09P_6:P$1
AC8  IO_L36P_5:P$1
AC9  IO_L08N_5:P$1
AC10  GND@AC10:P$1
AC11  IO_L17P_5:P$1
AC12  IO_L18P_5:P$1
AC13  IO_L23N_5:P$1
AC14  GND@AC14:P$1
AC15  IO_L29N_5:P$1
AC16  IO_L29P_4:P$1
AC17  GND@AC17:P$1
AC18  IO_L23P_4:P$1
AC19  IO_L19N_4:P$1
AC20  IO_L14N_4:P$1
AC21  GND@AC21:P$1
AC22  IO_L08P_4:P$1
AC23  IO_L04P_4:P$1
AC24  IO_L09N_3:P$1
AC25  IO_L10P_3:P$1
AC26  IO_L10N_3:P$1
AC27  IO_L11P_3:P$1
AC28  IO_L11N_3:P$1
AC29  IO_L13P_3:P$1
AC30  IO_L13N_3/VREF_3:P$1
AD1  IO_L08P_6:P$1
AD2  IO_L08N_6:P$1
AD3  IO_L07P_6:P$1
AD4  IO_L07N_6:P$1
AD5  VCCO_6@AD5:P$1
AD6  IO_L09N_6/VREF_6:P$1
AD7  IO_L05P_5:P$1
AD8  IO_L36N_5:P$1
AD9  VCCO_5@AD9:P$1
AD10  IO_L13P_5:P$1
AD11  IO_L13N_5:P$1
AD12  IO_L18N_5:P$1
AD13  VCCO_5@AD13:P$1
AD14  IO_L30P_5:P$1
AD15  IO_L30N_5:P$1
AD16  IO_L30N_4/D2:P$1
AD17  IO_L27N_4/DIN/D0:P$1
AD18  VCCO_4@AD18:P$1
AD19  IO_L19P_4:P$1
AD20  IO_L14P_4:P$1
AD21  IO_L11N_4:P$1
AD22  VCCO_4@AD22:P$1
AD23  IO@AD23:P$1
AD24  IO_L04N_4:P$1
AD25  IO_L09P_3/VREF_3:P$1
AD26  VCCO_3@AD26:P$1
AD27  IO_L07P_3:P$1
AD28  IO_L07N_3:P$1
AD29  IO_L08P_3:P$1
AD30  IO_L08N_3:P$1
AE1  GND@AE1:P$1
AE2  IO_L06P_6:P$1
AE3  IO_L06N_6:P$1
AE4  VCCAUX@AE4:P$1
AE5  IO_L05P_6:P$1
AE6  IO@AE6:P$1
AE7  IO_L05N_5:P$1
AE8  IO_L37P_5:P$1
AE9  IO_L11P_5:P$1
AE10  IO_L11N_5/VREF_5:P$1
AE11  IO_L14P_5:P$1
AE12  IO_L19P_5/VREF_5:P$1
AE13  IO_L27P_5:P$1
AE14  IO_L27N_5/VREF_5:P$1
AE15  IO@AE15:P$1
AE16  IO_L30P_4/D3:P$1
AE17  IO_L27P_4/D1:P$1
AE18  IO_L24N_4:P$1
AE19  IO_L20N_4:P$1
AE20  IO_L15N_4:P$1
AE21  IO_L11P_4:P$1
AE22  IO@AE22:P$1
AE23  IO_L05N_4:P$1
AE24  IO_L34P_4:P$1
AE25  IO_L34N_4:P$1
AE26  IO_L05N_3:P$1
AE27  VCCAUX@AE27:P$1
AE28  IO_L06P_3:P$1
AE29  IO_L06N_3:P$1
AE30  GND@AE30:P$1
AF1  IO_L04P_6:P$1
AF2  IO_L04N_6:P$1
AF3  VCCO_6@AF3:P$1
AF4  IO_L05N_6:P$1
AF5  GND@AF5:P$1
AF6  IO_L03N_5:P$1
AF7  VCCO_5@AF7:P$1
AF8  IO_L37N_5:P$1
AF9  IO_L09P_5:P$1
AF10  GND@AF10:P$1
AF11  IO_L14N_5:P$1
AF12  IO_L19N_5:P$1
AF13  IO_L24P_5:P$1
AF14  GND@AF14:P$1
AF15  IO_L31P_5/D5:P$1
AF16  IO/VREF_4@AF16:P$1
AF17  GND@AF17:P$1
AF18  IO_L24P_4:P$1
AF19  IO_L20P_4:P$1
AF20  IO_L15P_4:P$1
AF21  GND@AF21:P$1
AF22  IO_L09N_4:P$1
AF23  IO_L05P_4:P$1
AF24  VCCO_4@AF24:P$1
AF25  IO_L03P_4:P$1
AF26  GND@AF26:P$1
AF27  IO_L05P_3:P$1
AF28  VCCO_3@AF28:P$1
AF29  IO_L04P_3:P$1
AF30  IO_L04N_3:P$1
AG1  IO_L03P_6:P$1
AG2  IO_L03N_6/VREF_6:P$1
AG3  IO_L02P_6:P$1
AG4  IO_L02N_6:P$1
AG5  IO_L03P_5:P$1
AG6  VCCAUX@AG6:P$1
AG7  IO_L06P_5:P$1
AG8  IO_L38P_5:P$1
AG9  IO_L09N_5:P$1
AG10  VCCAUX@AG10:P$1
AG11  IO_L15P_5:P$1
AG12  IO_L20P_5:P$1
AG13  IO_L24N_5:P$1
AG14  VCCAUX@AG14:P$1
AG15  IO_L31N_5/D4:P$1
AG16  IO_L31N_4/INIT_B:P$1
AG17  VCCAUX@AG17:P$1
AG18  IO@AG18:P$1
AG19  IO_L21N_4:P$1
AG20  IO_L16N_4:P$1
AG21  VCCAUX@AG21:P$1
AG22  IO_L09P_4:P$1
AG23  IO_L06N_4/VREF_4:P$1
AG24  IO_L35N_4:P$1
AG25  VCCAUX@AG25:P$1
AG26  IO_L03N_4:P$1
AG27  IO_L02P_3:P$1
AG28  IO_L02N_3/VREF_3:P$1
AG29  IO_L03P_3:P$1
AG30  IO_L03N_3:P$1
AH1  IO_L01P_6/VRN_6:P$1
AH2  IO_L01N_6/VRP_6:P$1
AH3  M1_:P$1
AH4  IO/VREF_5@AH4:P$1
AH5  VCCO_5@AH5:P$1
AH6  IO_L04P_5:P$1
AH7  IO_L06N_5:P$1
AH8  IO_L38N_5:P$1
AH9  VCCO_5@AH9:P$1
AH10  IO_L12P_5:P$1
AH11  IO_L15N_5:P$1
AH12  IO_L20N_5:P$1
AH13  VCCO_5@AH13:P$1
AH14  IO_L28P_5/D7:P$1
AH15  IO_L32P_5/GCLK2:P$1
AH16  IO_L31P_4/DOUT/BUSY:P$1
AH17  IO_L28N_4:P$1
AH18  VCCO_4@AH18:P$1
AH19  IO_L21P_4:P$1
AH20  IO_L16P_4:P$1
AH21  IO_L12N_4:P$1
AH22  VCCO_4@AH22:P$1
AH23  IO_L06P_4:P$1
AH24  IO_L35P_4:P$1
AH25  IO_L33N_4:P$1
AH26  VCCO_4@AH26:P$1
AH27  IO@AH27:P$1
AH28  CCLK:P$1
AH29  IO_L01P_3/VRN_3:P$1
AH30  IO_L01N_3/VRP_3:P$1
AJ1  GND@AJ1:P$1
AJ2  GND@AJ2:P$1
AJ3  M0:P$1
AJ4  IO_L01P_5/CS_B:P$1
AJ5  IO_L02P_5:P$1
AJ6  IO_L04N_5:P$1
AJ7  IO_L35P_5:P$1
AJ8  IO_L07P_5:P$1
AJ9  IO_L10P_5/VRN_5:P$1
AJ10  IO_L12N_5:P$1
AJ11  IO_L16P_5:P$1
AJ12  IO_L21P_5:P$1
AJ13  IO_L25P_5:P$1
AJ14  IO_L28N_5/D6:P$1
AJ15  IO_L32N_5/GCLK3:P$1
AJ16  IO_L32N_4/GCLK1:P$1
AJ17  IO_L28P_4:P$1
AJ18  IO_L25N_4:P$1
AJ19  IO_L22N_4/VREF_4:P$1
AJ20  IO_L17N_4:P$1
AJ21  IO_L12P_4:P$1
AJ22  IO_L10N_4:P$1
AJ23  IO_L07N_4:P$1
AJ24  IO_L38N_4:P$1
AJ25  IO_L33P_4:P$1
AJ26  IO_L02N_4:P$1
AJ27  IO_L01N_4/VRP_4:P$1
AJ28  DONE:P$1
AJ29  GND@AJ29:P$1
AJ30  GND@AJ30:P$1
AK1  GND@AK1:P$1
AK2  GND@AK2:P$1
AK3  M2_:P$1
AK4  IO_L01N_5/RDWR_B:P$1
AK5  IO_L02N_5:P$1
AK6  GND@AK6:P$1
AK7  IO_L35N_5:P$1
AK8  IO_L07N_5:P$1
AK9  IO_L10N_5/VRP_5:P$1
AK10  GND@AK10:P$1
AK11  IO_L16N_5:P$1
AK12  IO_L21N_5:P$1
AK13  IO_L25N_5:P$1
AK14  GND@AK14:P$1
AK15  IO/VREF_5@AK15:P$1
AK16  IO_L32P_4/GCLK0:P$1
AK17  GND@AK17:P$1
AK18  IO_L25P_4:P$1
AK19  IO_L22P_4:P$1
AK20  IO_L17P_4:P$1
AK21  GND@AK21:P$1
AK22  IO_L10P_4:P$1
AK23  IO_L07P_4:P$1
AK24  IO_L38P_4:P$1
AK25  GND@AK25:P$1
AK26  IO_L02P_4:P$1
AK27  IO_L01P_4/VRN_4:P$1
AK28  IO/VREF_4@AK28:P$1
AK29  GND@AK29:P$1
AK30  GND@AK30:P$1
B1  GND@B1:P$1
B2  GND@B2:P$1
B3  PROG_B:P$1
B4  IO_L01N_0/VRP_0:P$1
B5  IO_L02N_0:P$1
B6  IO_L04P_0:P$1
B7  IO_L35N_0:P$1
B8  IO_L09N_0:P$1
B9  IO_L38N_0:P$1
B10  IO_L12P_0:P$1
B11  IO_L17N_0:P$1
B12  IO_L22N_0:P$1
B13  IO_L25N_0:P$1
B14  IO_L28P_0:P$1
B15  IO_L32N_0/GCLK7:P$1
B16  IO_L32N_1/GCLK5:P$1
B17  IO_L28N_1:P$1
B18  IO_L39P_1:P$1
B19  IO_L26P_1:P$1
B20  IO_L21P_1:P$1
B21  IO_L17N_1/VREF_1:P$1
B22  IO_L15P_1:P$1
B23  IO_L11P_1:P$1
B24  IO_L07P_1:P$1
B25  IO_L04N_1:P$1
B26  IO_L03P_1:P$1
B27  IO_L01P_1/VRN_1:P$1
B28  TCK:P$1
B29  GND@B29:P$1
B30  GND@B30:P$1
C1  IO_L01N_7/VRP_7:P$1
C2  IO_L01P_7/VRN_7:P$1
C3  TDI:P$1
C4  IO/VREF_0@C4:P$1
C5  VCCO_0@C5:P$1
C6  IO_L04N_0:P$1
C7  IO_L06P_0:P$1
C8  IO_L08P_0:P$1
C9  VCCO_0@C9:P$1
C10  IO_L12N_0:P$1
C11  IO_L16P_0:P$1
C12  IO_L21P_0:P$1
C13  VCCO_0@C13:P$1
C14  IO_L28N_0:P$1
C15  IO_L31P_0/VREF_0:P$1
C16  IO_L32P_1/GCLK4:P$1
C17  IO_L28P_1:P$1
C18  VCCO_1@C18:P$1
C19  IO_L25N_1:P$1
C20  IO_L20N_1:P$1
C21  IO_L17P_1:P$1
C22  VCCO_1@C22:P$1
C23  IO_L10N_1/VREF_1:P$1
C24  IO_L06N_1/VREF_1:P$1
C25  IO_L04P_1:P$1
C26  VCCO_1@C26:P$1
C27  IO_L02P_1:P$1
C28  TDO:P$1
C29  IO_L01N_2/VRP_2:P$1
C30  IO_L01P_2/VRN_2:P$1
D1  IO_L03N_7/VREF_7:P$1
D2  IO_L03P_7:P$1
D3  IO_L02N_7:P$1
D4  IO_L02P_7:P$1
D5  IO_L03N_0:P$1
D6  VCCAUX@D6:P$1
D7  IO_L06N_0:P$1
D8  IO_L08N_0:P$1
D9  IO_L37P_0:P$1
D10  VCCAUX@D10:P$1
D11  IO_L16N_0:P$1
D12  IO_L21N_0:P$1
D13  IO@D13:P$1
D14  VCCAUX@D14:P$1
D15  IO_L31N_0:P$1
D16  IO_L31N_1/VREF_1:P$1
D17  VCCAUX@D17:P$1
D18  IO_L38N_1:P$1
D19  IO_L25P_1:P$1
D20  IO_L20P_1:P$1
D21  VCCAUX@D21:P$1
D22  IO_L14N_1:P$1
D23  IO_L10P_1:P$1
D24  IO_L06P_1:P$1
D25  VCCAUX@D25:P$1
D26  IO_L02N_1:P$1
D27  IO_L02N_2:P$1
D28  IO_L02P_2:P$1
D29  IO_L03N_2/VREF_2:P$1
D30  IO_L03P_2:P$1
E1  IO_L04N_7:P$1
E2  IO_L04P_7:P$1
E3  VCCO_7@E3:P$1
E4  IO_L05P_7:P$1
E5  GND@E5:P$1
E6  IO_L03P_0:P$1
E7  VCCO_0@E7:P$1
E8  IO_L07P_0:P$1
E9  IO_L37N_0:P$1
E10  GND@E10:P$1
E11  IO_L15P_0:P$1
E12  IO_L20P_0:P$1
E13  IO_L24P_0:P$1
E14  GND@E14:P$1
E15  IO@E15:P$1
E16  IO_L31P_1:P$1
E17  GND@E17:P$1
E18  IO_L38P_1:P$1
E19  IO_L24N_1:P$1
E20  IO_L19N_1:P$1
E21  GND@E21:P$1
E22  IO_L14P_1:P$1
E23  IO_L13P_1:P$1
E24  VCCO_1@E24:P$1
E25  IO@E25:P$1
E26  GND@E26:P$1
E27  IO_L41N_2:P$1
E28  VCCO_2@E28:P$1
E29  IO_L04N_2:P$1
E30  IO_L04P_2:P$1
F1  GND@F1:P$1
F2  IO_L06N_7:P$1
F3  IO_L06P_7:P$1
F4  VCCAUX@F4:P$1
F5  IO_L05N_7:P$1
F6  IO_L05N_0:P$1
F7  IO_L05P_0/VREF_0:P$1
F8  IO_L07N_0:P$1
F9  IO/VREF_0@F9:P$1
F10  IO_L11P_0:P$1
F11  IO_L15N_0:P$1
F12  IO_L20N_0:P$1
F13  IO_L24N_0:P$1
F14  IO_L27P_0:P$1
F15  IO_L30P_0:P$1
F16  IO@F16:P$1
F17  IO_L27N_1:P$1
F18  IO@F18:P$1
F19  IO_L24P_1:P$1
F20  IO_L19P_1:P$1
F21  IO_L16N_1:P$1
F22  IO_L13N_1:P$1
F23  IO_L09N_1:P$1
F24  IO_L05N_1:P$1
F25  IO_L05P_1:P$1
F26  IO_L41P_2:P$1
F27  VCCAUX@F27:P$1
F28  IO_L05N_2:P$1
F29  IO_L05P_2:P$1
F30  GND@F30:P$1
G1  IO_L08N_7:P$1
G2  IO_L08P_7:P$1
G3  IO_L07N_7:P$1
G4  IO_L07P_7:P$1
G5  VCCO_7@G5:P$1
G6  IO_L09P_7:P$1
G7  IO_L36N_0:P$1
G8  IO@G8:P$1
G9  VCCO_0@G9:P$1
G10  IO_L11N_0:P$1
G11  IO_L14P_0:P$1
G12  IO_L19P_0:P$1
G13  VCCO_0@G13:P$1
G14  IO_L27N_0:P$1
G15  IO_L30N_0:P$1
G16  IO_L30N_1:P$1
G17  IO_L27P_1:P$1
G18  VCCO_1@G18:P$1
G19  IO_L23N_1:P$1
G20  IO_L18N_1:P$1
G21  IO_L16P_1:P$1
G22  VCCO_1@G22:P$1
G23  IO_L09P_1:P$1
G24  IO_L08P_1:P$1
G25  IO_L08N_2:P$1
G26  VCCO_2@G26:P$1
G27  IO_L06N_2:P$1
G28  IO_L06P_2:P$1
G29  IO_L07N_2:P$1
G30  IO_L07P_2:P$1
H1  IO_L13N_7:P$1
H2  IO_L13P_7:P$1
H3  IO_L11N_7:P$1
H4  IO_L11P_7:P$1
H5  IO_L10N_7:P$1
H6  IO_L10P_7/VREF_7:P$1
H7  IO_L09N_7:P$1
H8  IO_L36P_0:P$1
H9  IO_L10P_0:P$1
H10  GND@H10:P$1
H11  IO_L14N_0:P$1
H12  IO_L19N_0:P$1
H13  IO_L23P_0:P$1
H14  GND@H14:P$1
H15  IO_L29P_0:P$1
H16  IO_L30P_1:P$1
H17  GND@H17:P$1
H18  IO_L37N_1:P$1
H19  IO_L23P_1:P$1
H20  IO_L18P_1:P$1
H21  GND@H21:P$1
H22  IO_L12N_1:P$1
H23  IO_L08N_1:P$1
H24  IO_L08P_2:P$1
H25  IO_L09N_2/VREF_2:P$1
H26  IO_L09P_2:P$1
H27  IO_L10N_2:P$1
H28  IO_L10P_2:P$1
H29  IO_L12N_2:P$1
H30  IO_L12P_2:P$1
J1  IO_L15N_7:P$1
J2  IO_L15P_7:P$1
J3  VCCO_7@J3:P$1
J4  IO_L14N_7:P$1
J5  IO_L14P_7:P$1
J6  IO@J6:P$1
J7  VCCO_7@J7:P$1
J8  IO_L16P_7/VREF_7:P$1
J9  IO_L10N_0:P$1
J10  IO_L13N_0:P$1
J11  VCCO_0@J11:P$1
J12  IO_L18P_0:P$1
J13  IO_L23N_0:P$1
J14  IO_L26P_0/VREF_0:P$1
J15  IO_L29N_0:P$1
J16  IO_L29N_1:P$1
J17  IO/VREF_1:P$1
J18  IO_L37P_1:P$1
J19  IO_L22N_1:P$1
J20  VCCO_1@J20:P$1
J21  IO@J21:P$1
J22  IO_L12P_1:P$1
J23  IO_L15N_2:P$1
J24  VCCO_2@J24:P$1
J25  IO@J25:P$1
J26  IO_L13N_2:P$1
J27  IO_L13P_2/VREF_2:P$1
J28  VCCO_2@J28:P$1
J29  IO_L14N_2:P$1
J30  IO_L14P_2:P$1
K1  GND@K1:P$1
K2  IO_L19N_7/VREF_7:P$1
K3  IO_L19P_7:P$1
K4  VCCAUX@K4:P$1
K5  GND@K5:P$1
K6  IO_L17N_7:P$1
K7  IO_L17P_7:P$1
K8  GND@K8:P$1
K9  IO_L16N_7:P$1
K10  IO_L20P_7:P$1
K11  IO_L13P_0:P$1
K12  IO_L18N_0:P$1
K13  IO@K13:P$1
K14  IO_L26N_0:P$1
K15  IO@K15:P$1
K16  IO_L29P_1:P$1
K17  IO_L40N_1:P$1
K18  IO_L40P_1:P$1
K19  IO_L22P_1:P$1
K20  IO@K20:P$1
K21  IO_L46N_2:P$1
K22  IO_L15P_2:P$1
K23  GND@K23:P$1
K24  IO_L16N_2:P$1
K25  IO_L16P_2:P$1
K26  GND@K26:P$1
K27  VCCAUX@K27:P$1
K28  IO_L45N_2:P$1
K29  IO_L45P_2:P$1
K30  GND@K30:P$1
L1  IO_L24N_7:P$1
L2  IO_L24P_7:P$1
L3  IO_L23N_7:P$1
L4  IO_L23P_7:P$1
L5  IO_L22N_7:P$1
L6  IO_L22P_7:P$1
L7  IO_L21N_7:P$1
L8  IO_L21P_7:P$1
L9  VCCO_7@L9:P$1
L10  IO_L20N_7:P$1
L11  VCCINT@L11:P$1
L12  VCCO_0@L12:P$1
L13  VCCO_0@L13:P$1
L14  VCCO_0@L14:P$1
L15  VCCINT@L15:P$1
L16  VCCINT@L16:P$1
L17  VCCO_1@L17:P$1
L18  VCCO_1@L18:P$1
L19  VCCO_1@L19:P$1
L20  VCCINT@L20:P$1
L21  IO_L46P_2:P$1
L22  VCCO_2@L22:P$1
L23  IO_L47N_2:P$1
L24  IO_L47P_2:P$1
L25  IO_L19N_2:P$1
L26  IO_L19P_2:P$1
L27  IO_L20N_2:P$1
L28  IO_L20P_2:P$1
L29  IO_L21N_2:P$1
L30  IO_L21P_2:P$1
M1  IO_L27N_7:P$1
M2  IO_L27P_7/VREF_7:P$1
M3  IO_L26N_7:P$1
M4  IO_L26P_7:P$1
M5  IO_L49P_7:P$1
M6  IO_L25N_7:P$1
M7  IO_L25P_7:P$1
M8  IO_L46N_7:P$1
M9  IO_L46P_7:P$1
M10  IO_L28P_7:P$1
M11  VCCO_7@M11:P$1
M12  VCCINT@M12:P$1
M13  VCCINT@M13:P$1
M14  VCCINT@M14:P$1
M15  GND@M15:P$1
M16  GND@M16:P$1
M17  VCCINT@M17:P$1
M18  VCCINT@M18:P$1
M19  VCCINT@M19:P$1
M20  VCCO_2@M20:P$1
M21  IO_L26N_2:P$1
M22  IO_L22N_2:P$1
M23  IO_L22P_2:P$1
M24  IO_L23N_2/VREF_2:P$1
M25  IO_L23P_2:P$1
M26  IO_L28N_2:P$1
M27  IO_L24N_2:P$1
M28  IO_L24P_2:P$1
M29  IO_L50N_2:P$1
M30  IO_L50P_2:P$1
N1  IO_L31N_7:P$1
N2  IO_L31P_7:P$1
N3  VCCO_7@N3:P$1
N4  IO_L50N_7:P$1
N5  IO_L50P_7:P$1
N6  IO_L49N_7:P$1
N7  VCCO_7@N7:P$1
N8  IO_L29N_7:P$1
N9  IO_L29P_7:P$1
N10  IO_L28N_7:P$1
N11  VCCO_7@N11:P$1
N12  VCCINT@N12:P$1
N13  GND@N13:P$1
N14  GND@N14:P$1
N15  GND@N15:P$1
N16  GND@N16:P$1
N17  GND@N17:P$1
N18  GND@N18:P$1
N19  VCCINT@N19:P$1
N20  VCCO_2@N20:P$1
N21  IO_L26P_2:P$1
N22  IO_L27N_2:P$1
N23  IO_L27P_2:P$1
N24  VCCO_2@N24:P$1
N25  IO_L28P_2:P$1
N26  IO_L29N_2:P$1
N27  IO_L29P_2:P$1
N28  VCCO_2@N28:P$1
N29  IO_L31N_2:P$1
N30  IO_L31P_2:P$1
P1  GND@P1:P$1
P2  IO_L34N_7:P$1
P3  IO_L34P_7:P$1
P4  VCCAUX@P4:P$1
P5  GND@P5:P$1
P6  IO_L33N_7:P$1
P7  IO_L33P_7:P$1
P8  GND@P8:P$1
P9  IO_L32N_7:P$1
P10  IO_L32P_7:P$1
P11  VCCO_7@P11:P$1
P12  VCCINT@P12:P$1
P13  GND@P13:P$1
P14  GND@P14:P$1
P15  GND@P15:P$1
P16  GND@P16:P$1
P17  GND@P17:P$1
P18  GND@P18:P$1
P19  VCCINT@P19:P$1
P20  VCCO_2@P20:P$1
P21  IO_L32N_2:P$1
P22  IO_L32P_2:P$1
P23  GND@P23:P$1
P24  IO_L33N_2:P$1
P25  IO_L33P_2:P$1
P26  GND@P26:P$1
P27  VCCAUX@P27:P$1
P28  IO_L34N_2/VREF_2:P$1
P29  IO_L34P_2:P$1
P30  GND@P30:P$1
R1  IO_L40N_7/VREF_7:P$1
R2  IO_L40P_7:P$1
R3  IO_L39N_7:P$1
R4  IO_L39P_7:P$1
R5  IO_L38N_7:P$1
R6  IO_L38P_7:P$1
R7  IO_L37N_7:P$1
R8  IO_L37P_7/VREF_7:P$1
R9  IO_L35N_7:P$1
R10  IO_L35P_7:P$1
R11  VCCINT@R11:P$1
R12  GND@R12:P$1
R13  GND@R13:P$1
R14  GND@R14:P$1
R15  GND@R15:P$1
R16  GND@R16:P$1
R17  GND@R17:P$1
R18  GND@R18:P$1
R19  GND@R19:P$1
R20  VCCINT@R20:P$1
R21  IO_L35N_2:P$1
R22  IO_L35P_2:P$1
R23  IO_L37N_2:P$1
R24  IO_L37P_2:P$1
R25  IO_L38N_2:P$1
R26  IO_L38P_2:P$1
R27  IO_L39N_2:P$1
R28  IO_L39P_2:P$1
R29  IO_L40N_2:P$1
R30  IO_L40P_2/VREF_2:P$1
T1  IO_L40P_6/VREF_6:P$1
T2  IO_L40N_6:P$1
T3  IO_L39P_6:P$1
T4  IO_L39N_6:P$1
T5  IO_L38P_6:P$1
T6  IO_L38N_6:P$1
T7  IO_L52P_6:P$1
T8  IO_L52N_6:P$1
T9  IO_L37P_6:P$1
T10  IO_L37N_6:P$1
T11  VCCINT@T11:P$1
T12  GND@T12:P$1
T13  GND@T13:P$1
T14  GND@T14:P$1
T15  GND@T15:P$1
T16  GND@T16:P$1
T17  GND@T17:P$1
T18  GND@T18:P$1
T19  GND@T19:P$1
T20  VCCINT@T20:P$1
T21  IO_L35P_3:P$1
T22  IO_L35N_3:P$1
T23  IO_L37P_3:P$1
T24  IO_L37N_3:P$1
T25  IO_L38P_3:P$1
T26  IO_L38N_3:P$1
T27  IO_L39P_3:P$1
T28  IO_L39N_3:P$1
T29  IO_L40P_3:P$1
T30  IO_L40N_3/VREF_3:P$1
U1  GND@U1:P$1
U2  IO_L36P_6:P$1
U3  IO_L36N_6:P$1
U4  VCCAUX@U4:P$1
U5  GND@U5:P$1
U6  IO_L35P_6:P$1
U7  IO_L35N_6:P$1
U8  GND@U8:P$1
U9  IO_L34P_6:P$1
U10  IO_L34N_6/VREF_6:P$1
U11  VCCO_6@U11:P$1
U12  VCCINT@U12:P$1
U13  GND@U13:P$1
U14  GND@U14:P$1
U15  GND@U15:P$1
U16  GND@U16:P$1
U17  GND@U17:P$1
U18  GND@U18:P$1
U19  VCCINT@U19:P$1
U20  VCCO_3@U20:P$1
U21  IO_L32P_3:P$1
U22  IO_L32N_3:P$1
U23  GND@U23:P$1
U24  IO_L33P_3:P$1
U25  IO_L33N_3:P$1
U26  GND@U26:P$1
U27  VCCAUX@U27:P$1
U28  IO_L34P_3/VREF_3:P$1
U29  IO_L34N_3:P$1
U30  GND@U30:P$1
V1  IO_L33P_6:P$1
V2  IO_L33N_6:P$1
V3  VCCO_6@V3:P$1
V4  IO_L32P_6:P$1
V5  IO_L32N_6:P$1
V6  IO_L31P_6:P$1
V7  VCCO_6@V7:P$1
V8  IO_L30P_6:P$1
V9  IO_L30N_6:P$1
V10  IO_L29P_6:P$1
V11  VCCO_6@V11:P$1
V12  VCCINT@V12:P$1
V13  GND@V13:P$1
V14  GND@V14:P$1
V15  GND@V15:P$1
V16  GND@V16:P$1
V17  GND@V17:P$1
V18  GND@V18:P$1
V19  VCCINT@V19:P$1
V20  VCCO_3@V20:P$1
V21  IO_L27N_3:P$1
V22  IO_L28P_3:P$1
V23  IO_L28N_3:P$1
V24  VCCO_3@V24:P$1
V25  IO_L29N_3:P$1
V26  IO_L50P_3:P$1
V27  IO_L50N_3:P$1
V28  VCCO_3@V28:P$1
V29  IO_L31P_3:P$1
V30  IO_L31N_3:P$1
W1  IO_L28P_6:P$1
W2  IO_L28N_6:P$1
W3  IO_L27P_6:P$1
W4  IO_L27N_6:P$1
W5  IO_L31N_6:P$1
W6  IO_L26P_6:P$1
W7  IO_L26N_6:P$1
W8  IO_L25P_6:P$1
W9  IO_L25N_6:P$1
W10  IO_L29N_6:P$1
W11  VCCO_6@W11:P$1
W12  VCCINT@W12:P$1
W13  VCCINT@W13:P$1
W14  VCCINT@W14:P$1
W15  GND@W15:P$1
W16  GND@W16:P$1
W17  VCCINT@W17:P$1
W18  VCCINT@W18:P$1
W19  VCCINT@W19:P$1
W20  VCCO_3@W20:P$1
W21  IO_L27P_3:P$1
W22  IO_L46P_3:P$1
W23  IO_L46N_3:P$1
W24  IO_L47P_3:P$1
W25  IO_L47N_3:P$1
W26  IO_L29P_3:P$1
W27  IO_L48P_3:P$1
W28  IO_L48N_3:P$1
W29  IO_L26P_3:P$1
W30  IO_L26N_3:P$1
Y1  IO_L24P_6:P$1
Y2  IO_L24N_6/VREF_6:P$1
Y3  IO_L45P_6:P$1
Y4  IO_L45N_6:P$1
Y5  IO_L22P_6:P$1
Y6  IO_L22N_6:P$1
Y7  IO_L21P_6:P$1
Y8  IO_L21N_6:P$1
Y9  VCCO_6@Y9:P$1
Y10  IO_L20P_6:P$1
Y11  VCCINT@Y11:P$1
Y12  VCCO_5@Y12:P$1
Y13  VCCO_5@Y13:P$1
Y14  VCCO_5@Y14:P$1
Y15  VCCINT@Y15:P$1
Y16  VCCINT@Y16:P$1
Y17  VCCO_4@Y17:P$1
Y18  VCCO_4@Y18:P$1
Y19  VCCO_4@Y19:P$1
Y20  VCCINT@Y20:P$1
Y21  IO_L20N_3:P$1
Y22  VCCO_3@Y22:P$1
Y23  IO_L21P_3:P$1
Y24  IO_L21N_3:P$1
Y25  IO_L22P_3:P$1
Y26  IO_L22N_3:P$1
Y27  IO_L23P_3/VREF_3:P$1
Y28  IO_L23N_3:P$1
Y29  IO_L24P_3:P$1
Y30  IO_L24N_3:P$1

## Footprint XC3S5000-FG900 (pad centres in mm)
smd 0.4 x 0.4: A1 0,0; A2 1,0; A3 2,0; A4 3,0; A5 4,0; A6 5,0; A7 6,0; A8 7,0; A9 8,0; A10 9,0; A11 10,0; A12 11,0; A13 12,0; A14 13,0; A15 14,0; A16 15,0; A17 16,0; A18 17,0; A19 18,0; A20 19,0; A21 20,0; A22 21,0; A23 22,0; A24 23,0; A25 24,0; A26 25,0; A27 26,0; A28 27,0; A29 28,0; A30 29,0; AA1 0,-20; AA2 1,-20; AA3 2,-20; AA4 3,-20; AA5 4,-20; AA6 5,-20; AA7 6,-20; AA8 7,-20; AA9 8,-20; AA10 9,-20; AA11 10,-20; AA12 11,-20; AA13 12,-20; AA14 13,-20; AA15 14,-20; AA16 15,-20; AA17 16,-20; AA18 17,-20; AA19 18,-20; AA20 19,-20; AA21 20,-20; AA22 21,-20; AA23 22,-20; AA24 23,-20; AA25 24,-20; AA26 25,-20; AA27 26,-20; AA28 27,-20; AA29 28,-20; AA30 29,-20; AB1 0,-21; AB2 1,-21; AB3 2,-21; AB4 3,-21; AB5 4,-21; AB6 5,-21; AB7 6,-21; AB8 7,-21; AB9 8,-21; AB10 9,-21; AB11 10,-21; AB12 11,-21; AB13 12,-21; AB14 13,-21; AB15 14,-21; AB16 15,-21; AB17 16,-21; AB18 17,-21; AB19 18,-21; AB20 19,-21; AB21 20,-21; AB22 21,-21; AB23 22,-21; AB24 23,-21; AB25 24,-21; AB26 25,-21; AB27 26,-21; AB28 27,-21; AB29 28,-21; AB30 29,-21; AC1 0,-22; AC2 1,-22; AC3 2,-22; AC4 3,-22; AC5 4,-22; AC6 5,-22; AC7 6,-22; AC8 7,-22; AC9 8,-22; AC10 9,-22; AC11 10,-22; AC12 11,-22; AC13 12,-22; AC14 13,-22; AC15 14,-22; AC16 15,-22; AC17 16,-22; AC18 17,-22; AC19 18,-22; AC20 19,-22; AC21 20,-22; AC22 21,-22; AC23 22,-22; AC24 23,-22; AC25 24,-22; AC26 25,-22; AC27 26,-22; AC28 27,-22; AC29 28,-22; AC30 29,-22; AD1 0,-23; AD2 1,-23; AD3 2,-23; AD4 3,-23; AD5 4,-23; AD6 5,-23; AD7 6,-23; AD8 7,-23; AD9 8,-23; AD10 9,-23; AD11 10,-23; AD12 11,-23; AD13 12,-23; AD14 13,-23; AD15 14,-23; AD16 15,-23; AD17 16,-23; AD18 17,-23; AD19 18,-23; AD20 19,-23; AD21 20,-23; AD22 21,-23; AD23 22,-23; AD24 23,-23; AD25 24,-23; AD26 25,-23; AD27 26,-23; AD28 27,-23; AD29 28,-23; AD30 29,-23; AE1 0,-24; AE2 1,-24; AE3 2,-24; AE4 3,-24; AE5 4,-24; AE6 5,-24; AE7 6,-24; AE8 7,-24; AE9 8,-24; AE10 9,-24; AE11 10,-24; AE12 11,-24; AE13 12,-24; AE14 13,-24; AE15 14,-24; AE16 15,-24; AE17 16,-24; AE18 17,-24; AE19 18,-24; AE20 19,-24; AE21 20,-24; AE22 21,-24; AE23 22,-24; AE24 23,-24; AE25 24,-24; AE26 25,-24; AE27 26,-24; AE28 27,-24; AE29 28,-24; AE30 29,-24; AF1 0,-25; AF2 1,-25; AF3 2,-25; AF4 3,-25; AF5 4,-25; AF6 5,-25; AF7 6,-25; AF8 7,-25; AF9 8,-25; AF10 9,-25; AF11 10,-25; AF12 11,-25; AF13 12,-25; AF14 13,-25; AF15 14,-25; AF16 15,-25; AF17 16,-25; AF18 17,-25; AF19 18,-25; AF20 19,-25; AF21 20,-25; AF22 21,-25; AF23 22,-25; AF24 23,-25; AF25 24,-25; AF26 25,-25; AF27 26,-25; AF28 27,-25; AF29 28,-25; AF30 29,-25; AG1 0,-26; AG2 1,-26; AG3 2,-26; AG4 3,-26; AG5 4,-26; AG6 5,-26; AG7 6,-26; AG8 7,-26; AG9 8,-26; AG10 9,-26; AG11 10,-26; AG12 11,-26; AG13 12,-26; AG14 13,-26; AG15 14,-26; AG16 15,-26; AG17 16,-26; AG18 17,-26; AG19 18,-26; AG20 19,-26; AG21 20,-26; AG22 21,-26; AG23 22,-26; AG24 23,-26; AG25 24,-26; AG26 25,-26; AG27 26,-26; AG28 27,-26; AG29 28,-26; AG30 29,-26; AH1 0,-27; AH2 1,-27; AH3 2,-27; AH4 3,-27; AH5 4,-27; AH6 5,-27; AH7 6,-27; AH8 7,-27; AH9 8,-27; AH10 9,-27; AH11 10,-27; AH12 11,-27; AH13 12,-27; AH14 13,-27; AH15 14,-27; AH16 15,-27; AH17 16,-27; AH18 17,-27; AH19 18,-27; AH20 19,-27; AH21 20,-27; AH22 21,-27; AH23 22,-27; AH24 23,-27; AH25 24,-27; AH26 25,-27; AH27 26,-27; AH28 27,-27; AH29 28,-27; AH30 29,-27; AJ1 0,-28; AJ2 1,-28; AJ3 2,-28; AJ4 3,-28; AJ5 4,-28; AJ6 5,-28; AJ7 6,-28; AJ8 7,-28; AJ9 8,-28; AJ10 9,-28; AJ11 10,-28; AJ12 11,-28; AJ13 12,-28; AJ14 13,-28; AJ15 14,-28; AJ16 15,-28; AJ17 16,-28; AJ18 17,-28; AJ19 18,-28; AJ20 19,-28; AJ21 20,-28; AJ22 21,-28; AJ23 22,-28; AJ24 23,-28; AJ25 24,-28; AJ26 25,-28; AJ27 26,-28; AJ28 27,-28; AJ29 28,-28; AJ30 29,-28; AK1 0,-29; AK2 1,-29; AK3 2,-29; AK4 3,-29; AK5 4,-29; AK6 5,-29; AK7 6,-29; AK8 7,-29; AK9 8,-29; AK10 9,-29; AK11 10,-29; AK12 11,-29; AK13 12,-29; AK14 13,-29; AK15 14,-29; AK16 15,-29; AK17 16,-29; AK18 17,-29; AK19 18,-29; AK20 19,-29; AK21 20,-29; AK22 21,-29; AK23 22,-29; AK24 23,-29; AK25 24,-29; AK26 25,-29; AK27 26,-29; AK28 27,-29; AK29 28,-29; AK30 29,-29; B1 0,-1; B2 1,-1; B3 2,-1; B4 3,-1; B5 4,-1; B6 5,-1; B7 6,-1; B8 7,-1; B9 8,-1; B10 9,-1; B11 10,-1; B12 11,-1; B13 12,-1; B14 13,-1; B15 14,-1; B16 15,-1; B17 16,-1; B18 17,-1; B19 18,-1; B20 19,-1; B21 20,-1; B22 21,-1; B23 22,-1; B24 23,-1; B25 24,-1; B26 25,-1; B27 26,-1; B28 27,-1; B29 28,-1; B30 29,-1; C1 0,-2; C2 1,-2; C3 2,-2; C4 3,-2; C5 4,-2; C6 5,-2; C7 6,-2; C8 7,-2; C9 8,-2; C10 9,-2; C11 10,-2; C12 11,-2; C13 12,-2; C14 13,-2; C15 14,-2; C16 15,-2; C17 16,-2; C18 17,-2; C19 18,-2; C20 19,-2; C21 20,-2; C22 21,-2; C23 22,-2; C24 23,-2; C25 24,-2; C26 25,-2; C27 26,-2; C28 27,-2; C29 28,-2; C30 29,-2; D1 0,-3; D2 1,-3; D3 2,-3; D4 3,-3; D5 4,-3; D6 5,-3; D7 6,-3; D8 7,-3; D9 8,-3; D10 9,-3; D11 10,-3; D12 11,-3; D13 12,-3; D14 13,-3; D15 14,-3; D16 15,-3; D17 16,-3; D18 17,-3; D19 18,-3; D20 19,-3; D21 20,-3; D22 21,-3; D23 22,-3; D24 23,-3; D25 24,-3; D26 25,-3; D27 26,-3; D28 27,-3; D29 28,-3; D30 29,-3; E1 0,-4; E2 1,-4; E3 2,-4; E4 3,-4; E5 4,-4; E6 5,-4; E7 6,-4; E8 7,-4; E9 8,-4; E10 9,-4; E11 10,-4; E12 11,-4; E13 12,-4; E14 13,-4; E15 14,-4; E16 15,-4; E17 16,-4; E18 17,-4; E19 18,-4; E20 19,-4; E21 20,-4; E22 21,-4; E23 22,-4; E24 23,-4; E25 24,-4; E26 25,-4; E27 26,-4; E28 27,-4; E29 28,-4; E30 29,-4; F1 0,-5; F2 1,-5; F3 2,-5; F4 3,-5; F5 4,-5; F6 5,-5; F7 6,-5; F8 7,-5; F9 8,-5; F10 9,-5; F11 10,-5; F12 11,-5; F13 12,-5; F14 13,-5; F15 14,-5; F16 15,-5; F17 16,-5; F18 17,-5; F19 18,-5; F20 19,-5; F21 20,-5; F22 21,-5; F23 22,-5; F24 23,-5; F25 24,-5; F26 25,-5; F27 26,-5; F28 27,-5; F29 28,-5; F30 29,-5; G1 0,-6; G2 1,-6; G3 2,-6; G4 3,-6; G5 4,-6; G6 5,-6; G7 6,-6; G8 7,-6; G9 8,-6; G10 9,-6; G11 10,-6; G12 11,-6; G13 12,-6; G14 13,-6; G15 14,-6; G16 15,-6; G17 16,-6; G18 17,-6; G19 18,-6; G20 19,-6; G21 20,-6; G22 21,-6; G23 22,-6; G24 23,-6; G25 24,-6; G26 25,-6; G27 26,-6; G28 27,-6; G29 28,-6; G30 29,-6; H1 0,-7; H2 1,-7; H3 2,-7; H4 3,-7; H5 4,-7; H6 5,-7; H7 6,-7; H8 7,-7; H9 8,-7; H10 9,-7; H11 10,-7; H12 11,-7; H13 12,-7; H14 13,-7; H15 14,-7; H16 15,-7; H17 16,-7; H18 17,-7; H19 18,-7; H20 19,-7; H21 20,-7; H22 21,-7; H23 22,-7; H24 23,-7; H25 24,-7; H26 25,-7; H27 26,-7; H28 27,-7; H29 28,-7; H30 29,-7; J1 0,-8; J2 1,-8; J3 2,-8; J4 3,-8; J5 4,-8; J6 5,-8; J7 6,-8; J8 7,-8; J9 8,-8; J10 9,-8; J11 10,-8; J12 11,-8; J13 12,-8; J14 13,-8; J15 14,-8; J16 15,-8; J17 16,-8; J18 17,-8; J19 18,-8; J20 19,-8; J21 20,-8; J22 21,-8; J23 22,-8; J24 23,-8; J25 24,-8; J26 25,-8; J27 26,-8; J28 27,-8; J29 28,-8; J30 29,-8; K1 0,-9; K2 1,-9; K3 2,-9; K4 3,-9; K5 4,-9; K6 5,-9; K7 6,-9; K8 7,-9; K9 8,-9; K10 9,-9; K11 10,-9; K12 11,-9; K13 12,-9; K14 13,-9; K15 14,-9; K16 15,-9; K17 16,-9; K18 17,-9; K19 18,-9; K20 19,-9; K21 20,-9; K22 21,-9; K23 22,-9; K24 23,-9; K25 24,-9; K26 25,-9; K27 26,-9; K28 27,-9; K29 28,-9; K30 29,-9; L1 0,-10; L2 1,-10; L3 2,-10; L4 3,-10; L5 4,-10; L6 5,-10; L7 6,-10; L8 7,-10; L9 8,-10; L10 9,-10; L11 10,-10; L12 11,-10; L13 12,-10; L14 13,-10; L15 14,-10; L16 15,-10; L17 16,-10; L18 17,-10; L19 18,-10; L20 19,-10; L21 20,-10; L22 21,-10; L23 22,-10; L24 23,-10; L25 24,-10; L26 25,-10; L27 26,-10; L28 27,-10; L29 28,-10; L30 29,-10; M1 0,-11; M2 1,-11; M3 2,-11; M4 3,-11; M5 4,-11; M6 5,-11; M7 6,-11; M8 7,-11; M9 8,-11; M10 9,-11; M11 10,-11; M12 11,-11; M13 12,-11; M14 13,-11; M15 14,-11; M16 15,-11; M17 16,-11; M18 17,-11; M19 18,-11; M20 19,-11; M21 20,-11; M22 21,-11; M23 22,-11; M24 23,-11; M25 24,-11; M26 25,-11; M27 26,-11; M28 27,-11; M29 28,-11; M30 29,-11; N1 0,-12; N2 1,-12; N3 2,-12; N4 3,-12; N5 4,-12; N6 5,-12; N7 6,-12; N8 7,-12; N9 8,-12; N10 9,-12; N11 10,-12; N12 11,-12; N13 12,-12; N14 13,-12; N15 14,-12; N16 15,-12; N17 16,-12; N18 17,-12; N19 18,-12; N20 19,-12; N21 20,-12; N22 21,-12; N23 22,-12; N24 23,-12; N25 24,-12; N26 25,-12; N27 26,-12; N28 27,-12; N29 28,-12; N30 29,-12; P1 0,-13; P2 1,-13; P3 2,-13; P4 3,-13; P5 4,-13; P6 5,-13; P7 6,-13; P8 7,-13; P9 8,-13; P10 9,-13; P11 10,-13; P12 11,-13; P13 12,-13; P14 13,-13; P15 14,-13; P16 15,-13; P17 16,-13; P18 17,-13; P19 18,-13; P20 19,-13; P21 20,-13; P22 21,-13; P23 22,-13; P24 23,-13; P25 24,-13; P26 25,-13; P27 26,-13; P28 27,-13; P29 28,-13; P30 29,-13; R1 0,-14; R2 1,-14; R3 2,-14; R4 3,-14; R5 4,-14; R6 5,-14; R7 6,-14; R8 7,-14; R9 8,-14; R10 9,-14; R11 10,-14; R12 11,-14; R13 12,-14; R14 13,-14; R15 14,-14; R16 15,-14; R17 16,-14; R18 17,-14; R19 18,-14; R20 19,-14; R21 20,-14; R22 21,-14; R23 22,-14; R24 23,-14; R25 24,-14; R26 25,-14; R27 26,-14; R28 27,-14; R29 28,-14; R30 29,-14; T1 0,-15; T2 1,-15; T3 2,-15; T4 3,-15; T5 4,-15; T6 5,-15; T7 6,-15; T8 7,-15; T9 8,-15; T10 9,-15; T11 10,-15; T12 11,-15; T13 12,-15; T14 13,-15; T15 14,-15; T16 15,-15; T17 16,-15; T18 17,-15; T19 18,-15; T20 19,-15; T21 20,-15; T22 21,-15; T23 22,-15; T24 23,-15; T25 24,-15; T26 25,-15; T27 26,-15; T28 27,-15; T29 28,-15; T30 29,-15; U1 0,-16; U2 1,-16; U3 2,-16; U4 3,-16; U5 4,-16; U6 5,-16; U7 6,-16; U8 7,-16; U9 8,-16; U10 9,-16; U11 10,-16; U12 11,-16; U13 12,-16; U14 13,-16; U15 14,-16; U16 15,-16; U17 16,-16; U18 17,-16; U19 18,-16; U20 19,-16; U21 20,-16; U22 21,-16; U23 22,-16; U24 23,-16; U25 24,-16; U26 25,-16; U27 26,-16; U28 27,-16; U29 28,-16; U30 29,-16; V1 0,-17; V2 1,-17; V3 2,-17; V4 3,-17; V5 4,-17; V6 5,-17; V7 6,-17; V8 7,-17; V9 8,-17; V10 9,-17; V11 10,-17; V12 11,-17; V13 12,-17; V14 13,-17; V15 14,-17; V16 15,-17; V17 16,-17; V18 17,-17; V19 18,-17; V20 19,-17; V21 20,-17; V22 21,-17; V23 22,-17; V24 23,-17; V25 24,-17; V26 25,-17; V27 26,-17; V28 27,-17; V29 28,-17; V30 29,-17; W1 0,-18; W2 1,-18; W3 2,-18; W4 3,-18; W5 4,-18; W6 5,-18; W7 6,-18; W8 7,-18; W9 8,-18; W10 9,-18; W11 10,-18; W12 11,-18; W13 12,-18; W14 13,-18; W15 14,-18; W16 15,-18; W17 16,-18; W18 17,-18; W19 18,-18; W20 19,-18; W21 20,-18; W22 21,-18; W23 22,-18; W24 23,-18; W25 24,-18; W26 25,-18; W27 26,-18; W28 27,-18; W29 28,-18; W30 29,-18; Y1 0,-19; Y2 1,-19; Y3 2,-19; Y4 3,-19; Y5 4,-19; Y6 5,-19; Y7 6,-19; Y8 7,-19; Y9 8,-19; Y10 9,-19; Y11 10,-19; Y12 11,-19; Y13 12,-19; Y14 13,-19; Y15 14,-19; Y16 15,-19; Y17 16,-19; Y18 17,-19; Y19 18,-19; Y20 19,-19; Y21 20,-19; Y22 21,-19; Y23 22,-19; Y24 23,-19; Y25 24,-19; Y26 25,-19; Y27 26,-19; Y28 27,-19; Y29 28,-19; Y30 29,-19